# Altium schematic symbol library fszhang.SchLib: 199 symbols (part 1 of 2)
Pins are listed as number, name and electrical type; pins without a type are passive.

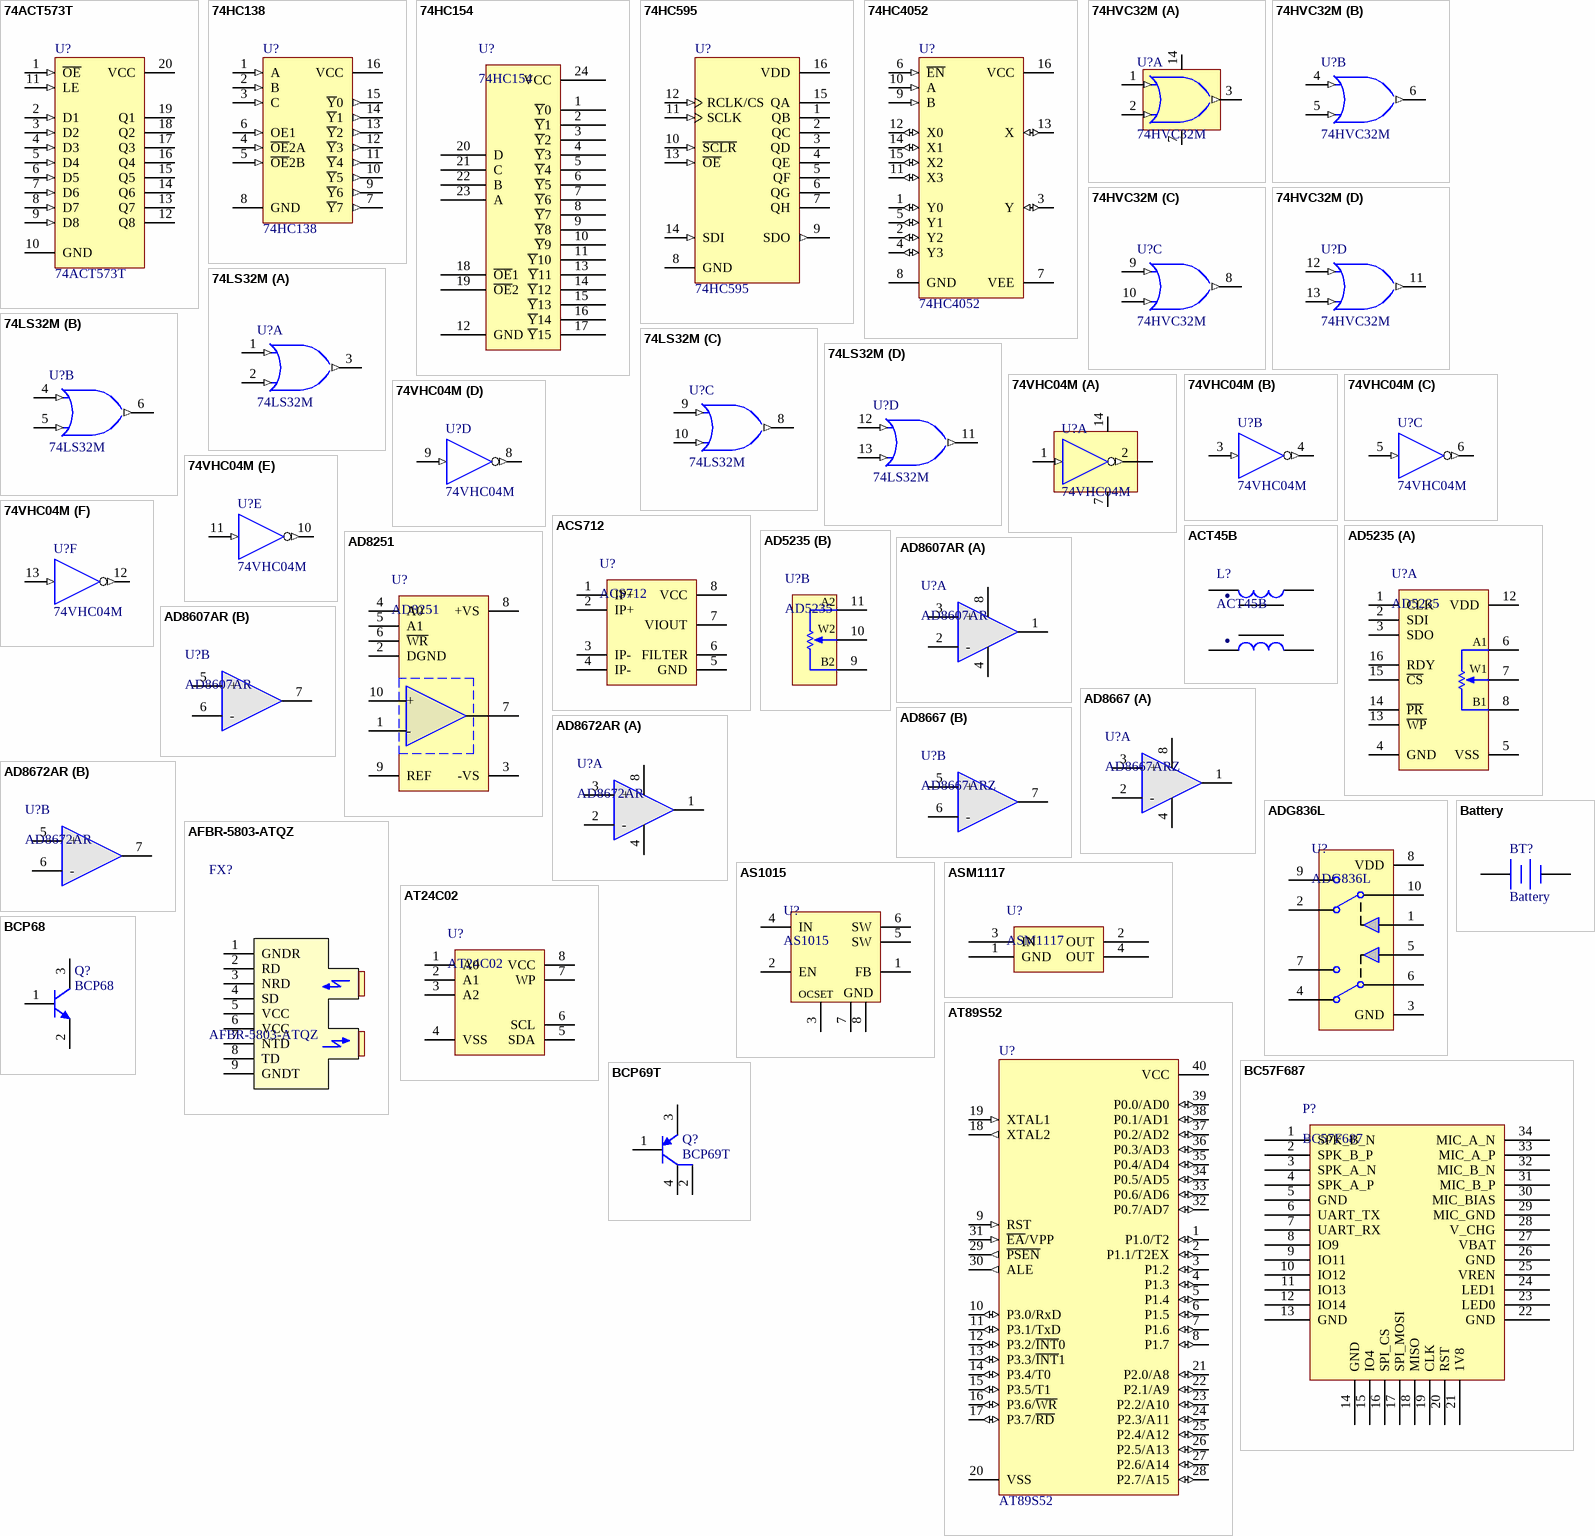
[diagram p0: symbols 74ACT573T to BCP69T]

## 74ACT573T
designator U?
双向数据传输; Published: 8-Jun-2000; LatestRevisionDate: 06-Jun-2005; LatestRevisionNote: Stylized 3D Model Added.; DatasheetVersion: May-1999; PackageReference: TSSOP20; Publisher: Altium Limited; PackageDescription: Shrink Small Outline; 20 Leads; Body Width 4.4 mm; Pitch 0.65 mm; ComponentLink1Description: Manufacturer Link; ComponentLink1URL: http://www.st.com/; ComponentLink2Description: Datasheet; ComponentLink2URL: http://www.st.com/stonline/products/literature/ds/4820/74act573.pdf
footprint TSSOP20 (Shrink Small Outline; 20 Leads; Body Width 4.4 mm; Pitch 0.65 mm)
footprint SO20_M (SOIC, 20-Leads, Body 12.8x7.5mm, Pitch 1.27mm, IPC Low Density)
pins: 1 ~{OE} (in), 2 D1 (in), 3 D2 (in), 4 D3 (in), 5 D4 (in), 6 D5 (in), 7 D6 (in), 8 D7 (in), 9 D8 (in), 10 GND (power), 11 LE (in), 12 Q8 (hiz), 13 Q7 (hiz), 14 Q6 (hiz), 15 Q5 (hiz), 16 Q4 (hiz), 17 Q3 (hiz), 18 Q2 (hiz), 19 Q1 (hiz), 20 VCC (power)

## 74HC138
designator U?
138译码器; Published: 17-Jul-2002; LatestRevisionDate: 13-Apr-2006; LatestRevisionNote: IPC-7351 Footprint Added.; DatasheetVersion: Nov-1999; PackageVersion: 2000; PackageReference: M16D; Publisher: Altium Limited; PackageDescription: 16-Pin Small Outline Package 1.27 mm Pitch; ComponentLink1Description: Manufacturer Link; ComponentLink1URL: http://www.fairchildsemi.com/; ComponentLink2Description: Datasheet; ComponentLink2URL: http://www.fairchildsemi.com/ds/74%2F74AC138.pdf
footprint NSO16_M (SOIC, 16-Leads, Body 9.9x3.9mm, Pitch 1.27mm, IPC Low Density)
footprint DIP16 (8列双排)
pins: 1 A (in), 2 B (in), 3 C (in), 4 ~{OE}2A (in), 5 ~{OE}2B (in), 6 OE1 (in), 7 ~{Y}7 (out), 8 GND (power), 9 ~{Y}6 (out), 10 ~{Y}5 (out), 11 ~{Y}4 (out), 12 ~{Y}3 (out), 13 ~{Y}2 (out), 14 ~{Y}1 (out), 15 ~{Y}0 (out), 16 VCC (power)

## 74HC154
designator U?
4-16译码器
footprint DW024_N (74hc154)
footprint DIP24 (DIP; 24,74ls154)
pins: 1 ~{Y}0 (power), 2 ~{Y}1 (power), 3 ~{Y}2 (power), 4 ~{Y}3 (power), 5 ~{Y}4 (power), 6 ~{Y}5 (power), 7 ~{Y}6 (power), 8 ~{Y}7 (power), 9 ~{Y}8 (power), 10 ~{Y}9 (power), 11 ~{Y}10 (power), 12 GND (power), 13 ~{Y}11 (power), 14 ~{Y}12 (power), 15 ~{Y}13 (power), 16 ~{Y}14 (power), 17 ~{Y}15 (power), 18 ~{OE}1 (power), 19 ~{OE}2 (power), 20 D (power), 21 C (power), 22 B (power), 23 A (power), 24 VCC (power)

## 74HC595
designator U?
移位寄存器; ComponentAvailability: Not for New Design; Published: 15-Apr-2002; LatestRevisionDate: 13-Apr-2006; LatestRevisionNote: IPC-7351 Footprint Added.; DatasheetVersion: 1997; PackageVersion: 1997; PackageReference: 966-01; Publisher: Altium Limited; PackageDescription: 16-Pin Small Outline Package 1.27 mm Pitch; ComponentLink1Description: Manufacturer Link; ComponentLink1URL: http://www.onsemi.com/; ComponentLink2Description: Datasheet; ComponentLink2URL: http://www.onsemi.com/pub/Collateral/MC74VHC595-D.PDF
footprint DIP16 (8列双排)
footprint NSO16_M (SOIC, 16-Leads, Body 9.9x3.9mm, Pitch 1.27mm, IPC Low Density)
pins: 1 QB (hiz), 2 QC (hiz), 3 QD (hiz), 4 QE (hiz), 5 QF (hiz), 6 QG (hiz), 7 QH (hiz), 8 GND (power), 9 SDO (out), 10 ~{SCLR} (in), 11 SCLK (in), 12 RCLK/CS (in), 13 ~{OE} (in), 14 SDI (in), 15 QA (hiz), 16 VDD (power)

## 74HC4052
designator U?
双通道模拟开关; Published: 8-Jun-2000; LatestRevisionDate: 13-Apr-2006; LatestRevisionNote: IPC-7351 Footprint Added.; DatasheetVersion: Oct-1993; PackageVersion: May-1998; PackageReference: SO16; Publisher: Altium Limited; PackageDescription: 16-Pin Small Outline Integrated Circuit 1.27 mm Pitch; Code_IPC: SOIC127P600-16; ComponentLink1Description: Manufacturer Link; ComponentLink1URL: http://www.st.com/; ComponentLink2Description: Datasheet; ComponentLink2URL: http://www.st.com/stonline/products/literature/ds/7730/m74hc4052.pdf
footprint NSO16_M (SOIC, 16-Leads, Body 9.9x3.9mm, Pitch 1.27mm, IPC Low Density)
footprint DIP16
pins: 1 Y0 (io), 2 Y2 (io), 3 Y (io), 4 Y3 (io), 5 Y1 (io), 6 ~{EN} (in), 7 VEE (power), 8 GND (power), 9 B (in), 10 A (in), 11 X3 (io), 12 X0 (io), 13 X (io), 14 X1 (io), 15 X2 (io), 16 VCC (power)

## 74HVC32M
designator U?
双输入或门; Published: 15-Apr-2002; LatestRevisionDate: 13-Apr-2006; LatestRevisionNote: IPC-7351 Footprint Added.; DatasheetVersion: May-1989; PackageVersion: 2000; PackageReference: M14A; Publisher: Altium Limited; PackageDescription: 14-Pin Small Outline Integrated Circuit 1.27 mm Pitch; Code_IPC: SOIC127P600-14; ComponentLink1Description: Manufacturer Link; ComponentLink1URL: http://www.national.com/; ComponentLink2Description: Datasheet; ComponentLink2URL: http://www.national.com/ds.cgi/54/54LS32.pdf; ComponentLink3Description: URL Link1; ComponentLink3URL: http://www.national.com/pf/DM/DM54LS32.html
footprint SOP-14N (SOP, 14-Leads,)
part A pins: 1 A (in), 2 B (in), 3 Y (out), 7 GND (power), 14 VCC (power)
part B pins: 4 A (in), 5 B (in), 6 Y (out)
part C pins: 8 Y (out), 9 A (in), 10 B (in)
part D pins: 11 Y (out), 12 A (in), 13 B (in)

## 74LS32M
designator U?
双输入或门; Published: 15-Apr-2002; LatestRevisionDate: 13-Apr-2006; LatestRevisionNote: IPC-7351 Footprint Added.; DatasheetVersion: May-1989; PackageVersion: 2000; PackageReference: M14A; Publisher: Altium Limited; PackageDescription: 14-Pin Small Outline Integrated Circuit 1.27 mm Pitch; Code_IPC: SOIC127P600-14; ComponentLink1Description: Manufacturer Link; ComponentLink1URL: http://www.national.com/; ComponentLink2Description: Datasheet; ComponentLink2URL: http://www.national.com/ds.cgi/54/54LS32.pdf; ComponentLink3Description: URL Link1; ComponentLink3URL: http://www.national.com/pf/DM/DM54LS32.html
footprint SOP-14N (SOP, 14-Leads,)
pins on every part: 7 GND (power) hidden to GND, 14 VCC (power) hidden to VCC
part A pins: 1 A (in), 2 B (in), 3 Y (out)
part B pins: 4 A (in), 5 B (in), 6 Y (out)
part C pins: 8 Y (out), 9 A (in), 10 B (in)
part D pins: 11 Y (out), 12 A (in), 13 B (in)

## 74VHC04M
designator U?
非门; IC_Technology: S; Published: 17-Jul-2002; LatestRevisionDate: 13-Apr-2006; LatestRevisionNote: IPC-7351 Footprint Added.; DatasheetVersion: Mar-1998; PackageVersion: 2000; PackageReference: M14A; Publisher: Altium Limited; PackageDescription: 14-Pin Small Outline Integrated Circuit 1.27 mm Pitch; Code_IPC: SOIC127P600-14; ComponentLink1Description: Manufacturer Link; ComponentLink1URL: http://www.fairchildsemi.com/
footprint SOP-14N (SOP, 14-Leads,)
part A pins: 1 A (in), 2 Y (out), 7 GND (power), 14 VCC (power)
part B pins: 3 A (in), 4 Y (out)
part C pins: 5 A (in), 6 Y (out)
part D pins: 8 Y (out), 9 A (in)
part E pins: 10 Y (out), 11 A (in)
part F pins: 12 Y (out), 13 A (in)

## ACS712
designator U?
电流检测芯片
footprint SOIC127P610X175-8N (ACS712)
pins: 1 IP+, 2 IP+, 3 IP-, 4 IP-, 5 GND, 6 FILTER, 7 VIOUT, 8 VCC

## ACT45B
designator L?
共模电感
footprint L-TDK
pins: 1, 2, 3, 4
text: .

## AD5235
designator U?
数控电阻
footprint TSSOP16_M (TSOP, 16-Leads, Body 5x4.4mm, Pitch 0.65mm, IPC Low Density)
part A pins: 1 CLK, 2 SDI, 3 SDO, 4 GND, 5 VSS, 6 A1, 7 W1, 8 B1, 12 VDD, 13 ~{WP}, 14 ~{PR}, 15 ~{CS}, 16 RDY
part B pins: 9 B2, 10 W2, 11 A2

## AD8251
designator U?
可控增益运放
footprint MSOP-UN10_N (TSSOP)
pins: 1 -, 2 DGND, 3 -VS, 4 A0, 5 A1, 6 ~{WR}, 7 OUT, 8 +VS, 9 REF, 10 +

## AD8607AR
designator U?
双运放
footprint NSO8_N (SOIC-max660)
part A pins: 1 OUT1, 2 -, 3 +, 4 V- (power), 8 V+ (power)
part B pins: 5 +, 6 -, 7 OUT2

## AD8667
designator U?, comment AD8667ARZ
双运放
footprint NSO8_N (SOIC-max660)
part A pins: 1 OUT1, 2 -, 3 +, 4 V- (power), 8 V+ (power)
part B pins: 5 +, 6 -, 7 OUT2

## AD8672AR
designator U?
双运放
footprint NSO8_N (SOIC-max660)
part A pins: 1 OUT1, 2 -, 3 +, 4 V- (power), 8 V+ (power)
part B pins: 5 +, 6 -, 7 OUT2

## ADG836L
designator U?
双刀双掷数字开关
footprint MSOP-UN10_N (TSSOP)
pins: 1 IN1, 2 SA, 3 GND, 4 S2A, 5 IN2, 6 D2, 7 S2B, 8 VDD, 9 S1B, 10 D1

## AFBR-5803-ATQZ
designator FX?
光以太网
footprint AFBR-5803AQZ (光以太网)
pins: 1 GNDR, 2 RD, 3 NRD, 4 SD, 5 VCC, 6 VCC, 7 NTD, 8 TD, 9 GNDT

## AS1015
designator U?
可调升压芯片
footprint NSO8_N (SOIC-max660)
pins: 1 FB (power), 2 EN (power), 3 OCSET (power), 4 IN (power), 5 SW (power), 6 SW (power), 7 GND (power), 8 GND (power)

## ASM1117
designator U?
3.3V稳压芯片
footprint SOT-223 (ASM1117 -3.3V)
pins: 1 GND, 2 OUT, 3 IN, 4 OUT

## AT24C02
designator U?
EEROM存储器
footprint SOIC8_N (8-Pin Small Outline Integrated Circuit Package (SOIC8), IPC Medium Density)
pins: 1 A0, 2 A1, 3 A2, 4 VSS, 5 SDA, 6 SCL, 7 WP, 8 VCC

## AT89S52
designator U?
51系列单片机; Published: 21-May-2003; DatasheetVersion: 5-Jun-2002; PackageVersion: Aug-2000; PackageReference: SOT129-1; Publisher: Altium Limited; PackageDescription: DIP, Plastic; 40 Leads; Row Spacing 15.24 mm; Pitch 2.54 mm; Code_JEDEC: MO-015; ComponentLink1Description: Manufacturer Link; ComponentLink1URL: http://www-us2.semiconductors.philips.com/; ComponentLink2Description: Datasheet; ComponentLink2URL: http://www.semiconductors.philips.com/acrobat/datasheets/P89C5XX2_2.pdf
footprint DIP-40 (51单片机)
pins: 1 P1.0/T2 (io), 2 P1.1/T2EX (io), 3 P1.2 (io), 4 P1.3 (io), 5 P1.4 (io), 6 P1.5 (io), 7 P1.6 (io), 8 P1.7 (io), 9 RST (in), 10 P3.0/RxD (io), 11 P3.1/TxD (io), 12 P3.2/~{INT}0 (io), 13 P3.3/~{INT}1 (io), 14 P3.4/T0 (io), 15 P3.5/T1 (io), 16 P3.6/~{WR} (io), 17 P3.7/~{RD} (io), 18 XTAL2 (out), 19 XTAL1 (in), 20 VSS (power), 21 P2.0/A8 (io), 22 P2.1/A9 (io), 23 P2.2/A10 (io), 24 P2.3/A11 (io), 25 P2.4/A12 (io), 26 P2.5/A13 (io), 27 P2.6/A14 (io), 28 P2.7/A15 (io), 29 ~{PSEN} (out), 30 ALE (out), 31 ~{EA}/VPP (in), 32 P0.7/AD7 (io), 33 P0.6/AD6 (io), 34 P0.5/AD5 (io), 35 P0.4/AD4 (io), 36 P0.3/AD3 (io), 37 P0.2/AD2 (io), 38 P0.1/AD1 (io), 39 P0.0/AD0 (io), 40 VCC (power)

## Battery
designator BT?
备份电池; Published: 24-Mar-1999; LatestRevisionDate: 17-Jul-2002; LatestRevisionNote: Re-released for DXP Platform.; PackageReference: BAT-2; Publisher: Altium Limited
footprint CR1220 (钮扣电池)
pins: 1 +, 2 -

## BC57F687
designator P?
蓝牙音频模块
footprint HDR34_BT (蓝牙模块)
pins: 1 SPK_B_N, 2 SPK_B_P, 3 SPK_A_N, 4 SPK_A_P, 5 GND, 6 UART_TX, 7 UART_RX, 8 IO9, 9 IO11, 10 IO12, 11 IO13, 12 IO14, 13 GND, 14 GND, 15 IO4, 16 SPI_CS, 17 SPI_MOSI, 18 MISO, 19 CLK, 20 RST, 21 1V8, 22 GND, 23 LED0, 24 LED1, 25 VREN, 26 GND, 27 VBAT, 28 V_CHG, 29 MIC_GND, 30 MIC_BIAS, 31 MIC_B_P, 32 MIC_B_N, 33 MIC_A_P, 34 MIC_A_N

## BCP68
designator Q?
NPN三极管; Published: 17-Sep-2003; LatestRevisionDate: 12-Dec-2006; LatestRevisionNote: IPC-7351 Footprint Added.; DatasheetVersion: 8-Apr-1999; PackageVersion: Aug-2001; PackageReference: SOT223; Publisher: Altium Limited; PackageDescription: 4-Pin SOT-223 Package 2.3 mm Pitch, 7 mm Lead Span; ComponentLink1Description: Manufacturer Link; ComponentLink1URL: http://www.semiconductors.philips.com/; ComponentLink2Description: Datasheet; ComponentLink2URL: http://www.semiconductors.philips.com/acrobat/datasheets/BCP68_4.pdf
footprint SOT-23 (普通?)
pins: 1 B, 2 E, 3 C

## BCP69T
designator Q?
PNP三极管; Published: 8-Jun-2000; LatestRevisionDate: 15-Jan-2003; LatestRevisionNote: PCB Footprint 'BCY-W3/D4.7' replaced; DatasheetDocument: 1997; PackageDocument: Sep-1998; PackageReference: TO-92A; Publisher: Altium Limited; Code_JEDEC: TO-92A; ComponentLink1Description: Manufacturer Link; ComponentLink1URL: http://www.fairchildsemi.com/; ComponentLink2Description: Datasheet; ComponentLink2URL: http://www.fairchildsemi.com/ds/2N%2F2N3906.pdf
footprint SOT-223 (ASM1117 -3.3V)
pins: 1 B, 2 C, 3 E, 4

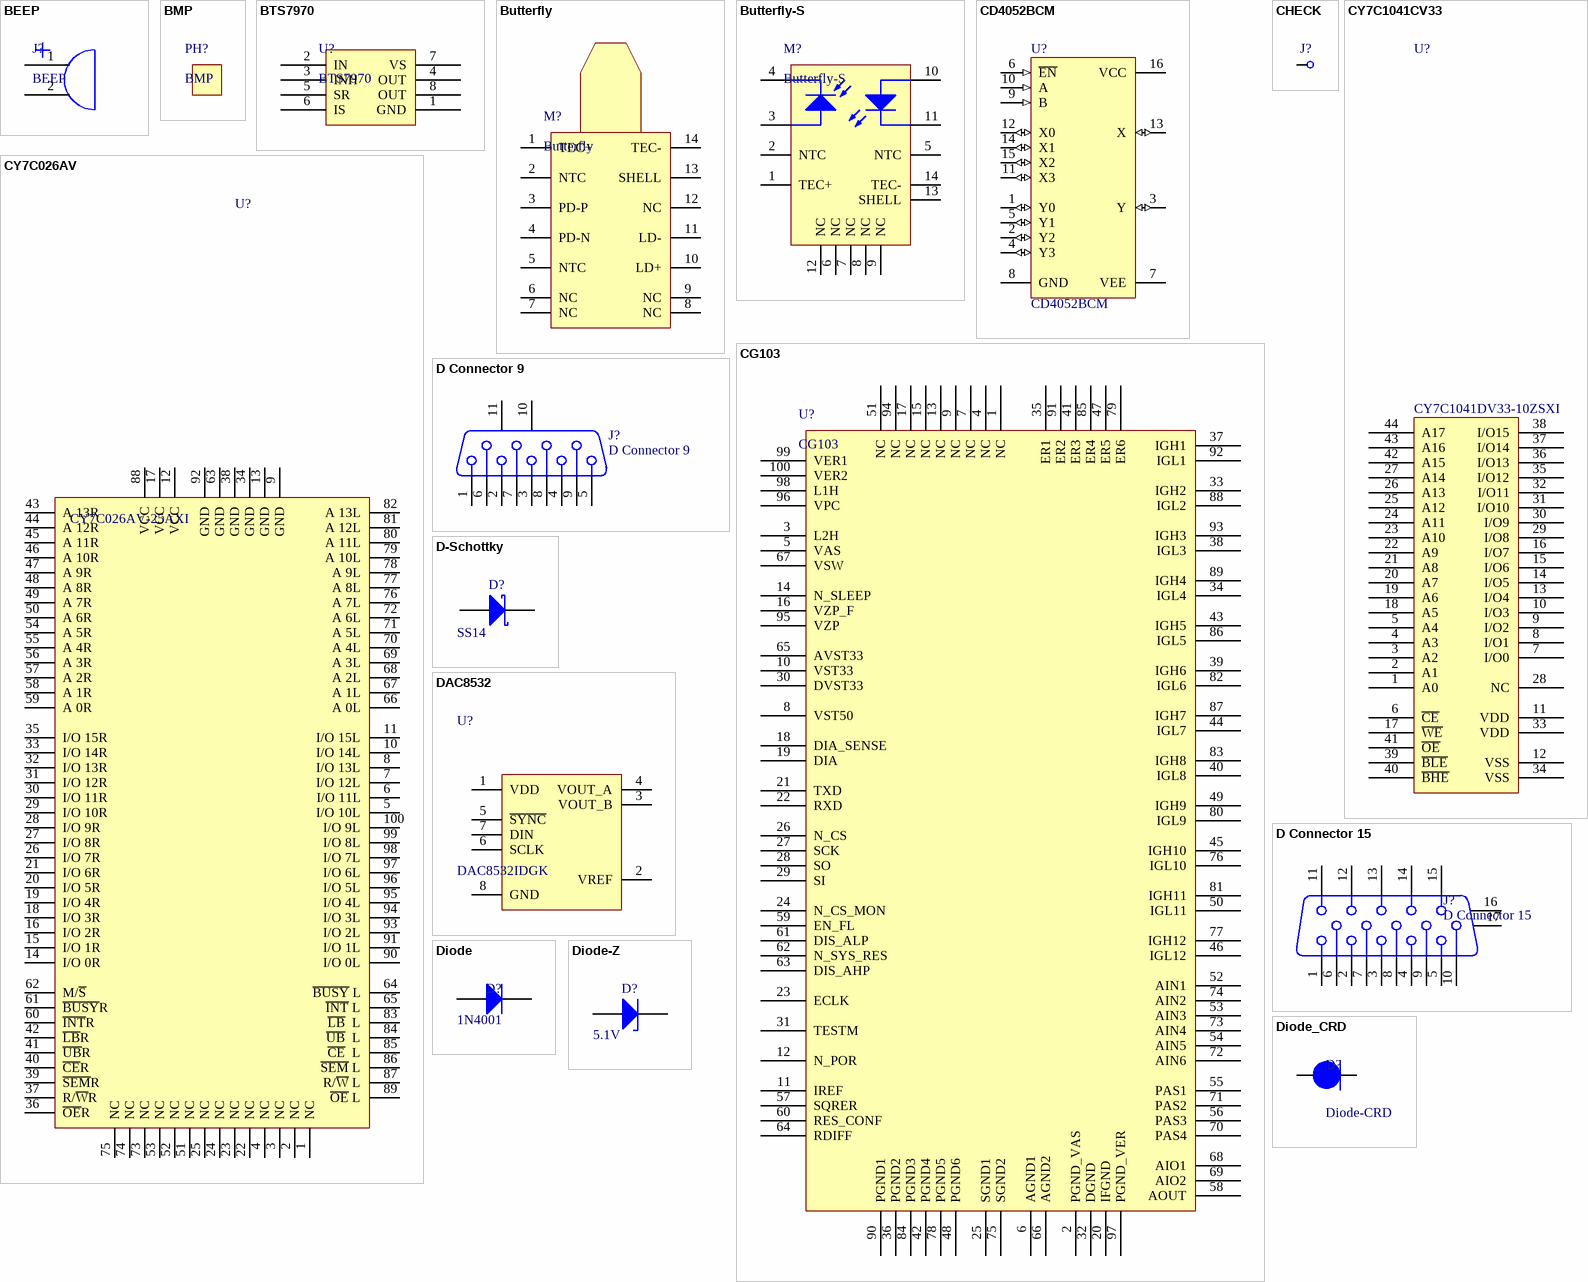
[diagram p1: symbols BEEP to Diode_CRD]

## BEEP
designator J?
蜂鸣器
footprint Beep (蜂鸣器)
pins: 1 0, 2 1

## BMP
designator PH?
闪电符号
footprint LOGO_Thunder
footprint LOGO-3S

## BTS7970
designator U?
电机驱动
footprint TO-263-7 (TO, 8-Pads,7970)
pins: 1 GND (power), 2 IN (power), 3 INH (power), 4 OUT (power), 5 SR (power), 6 IS (power), 7 VS (power), 8 OUT (power)

## Butterfly
designator M?
功率激光器
pins: 1 TEC+, 2 NTC, 3 PD-P, 4 PD-N, 5 NTC, 6 NC, 7 NC, 8 NC, 9 NC, 10 LD+, 11 LD-, 12 NC, 13 SHELL, 14 TEC-

## Butterfly-S
designator M?
功率激光器
pins: 1 TEC+, 2 NTC, 3 PD-P, 4 PD-N, 5 NTC, 6 NC, 7 NC, 8 NC, 9 NC, 10 LD+, 11 LD-, 12 NC, 13 SHELL, 14 TEC-

## CD4052BCM
designator U?
双通道模拟开关; Published: 17-Jul-2002; LatestRevisionDate: 13-Apr-2006; LatestRevisionNote: IPC-7351 Footprint Added.; DatasheetVersion: Jan-1999; PackageVersion: 2000; PackageReference: M16A; Publisher: Altium Limited; PackageDescription: 16-Pin Small Outline Integrated Circuit 1.27 mm Pitch; Code_IPC: SOIC127P600-16; ComponentLink1Description: Manufacturer Link; ComponentLink1URL: http://www.fairchildsemi.com/; ComponentLink2Description: Datasheet; ComponentLink2URL: http://www.fairchildsemi.com/ds/CD%2FCD4052BC.pdf
footprint NSO16_M (SOIC, 16-Leads, Body 9.9x3.9mm, Pitch 1.27mm, IPC Low Density)
pins: 1 Y0 (io), 2 Y2 (io), 3 Y (io), 4 Y3 (io), 5 Y1 (io), 6 ~{EN} (in), 7 VEE (power), 8 GND (power), 9 B (in), 10 A (in), 11 X3 (io), 12 X0 (io), 13 X (io), 14 X1 (io), 15 X2 (io), 16 VCC (power)

## CG103
designator U?
BOSCH点火芯片
footprint LQFP-100_M (Thin QFP, 100)
pins: 1 NC, 2 PGND_VAS, 3 L2H, 4 NC, 5 VAS, 6 AGND1, 7 NC, 8 VST50, 9 NC, 10 VST33, 11 IREF, 12 N_POR, 13 NC, 14 N_SLEEP, 15 NC, 16 VZP_F, 17 NC, 18 DIA_SENSE, 19 DIA, 20 IFGND, 21 TXD, 22 RXD, 23 ECLK, 24 N_CS_MON, 25 SGND1, 26 N_CS, 27 SCK, 28 SO, 29 SI, 30 DVST33, 31 TESTM, 32 DGND, 33 IGH2, 34 IGL4, 35 ER1, 36 PGND2, 37 IGH1, 38 IGL3, 39 IGH6, 40 IGL8, 41 ER3, 42 PGND4, 43 IGH5, 44 IGL7, 45 IGH10, 46 IGL12, 47 ER5, 48 PGND6, 49 IGH9, 50 IGL11, 51 NC, 52 AIN1, 53 AIN3, 54 AIN5, 55 PAS1, 56 PAS3, 57 SQRER, 58 AOUT, 59 EN_FL, 60 RES_CONF, 61 DIS_ALP, 62 N_SYS_RES, 63 DIS_AHP, 64 RDIFF, 65 AVST33, 66 AGND2, 67 VSW, 68 AIO1, 69 AIO2, 70 PAS4, 71 PAS2, 72 AIN6, 73 AIN4, 74 AIN2, 75 SGND2, 76 IGL10, 77 IGH12, 78 PGND5, 79 ER6, 80 IGL9, 81 IGH11, 82 IGL6, 83 IGH8, 84 PGND3, 85 ER4, 86 IGL5, 87 IGH7, 88 IGL2, 89 IGH4, 90 PGND1, 91 ER2, 92 IGL1, 93 IGH3, 94 NC, 95 VZP, 96 VPC, 97 PGND_VER, 98 L1H, 99 VER1, 100 VER2

## CHECK
designator J?  (value not drawn)
测试点
footprint CHECK-A (Connector; Plug)
footprint CHECK-B (Connector; Plug)
pins: 1

## CY7C026AV
designator U?, comment CY7C026AV-25AXI
RAM
footprint TQFP100_M (Thin QFP, 100-Leads, Body 14x14mm, Pitch 0.5mm, IPC Low Density)
pins: 1 NC, 2 NC, 3 NC, 4 NC, 5 I/O 10L, 6 I/O 11L, 7 I/O 12L, 8 I/O 13L, 9 GND, 10 I/O 14L, 11 I/O 15L, 12 VCC, 13 GND, 14 I/O 0R, 15 I/O 1R, 16 I/O 2R, 17 VCC, 18 I/O 3R, 19 I/O 4R, 20 I/O 5R, 21 I/O 6R, 22 NC, 23 NC, 24 NC, 25 NC, 26 I/O 7R, 27 I/O 8R, 28 I/O 9R, 29 I/O 10R, 30 I/O 11R, 31 I/O 12R, 32 I/O 13R, 33 I/O 14R, 34 GND, 35 I/O 15R, 36 ~{OE}R, 37 R/~{W}R, 38 GND, 39 ~{SEM}R, 40 ~{CE}R, 41 ~{UB}R, 42 ~{LB}R, 43 A 13R, 44 A 12R, 45 A 11R, 46 A 10R, 47 A 9R, 48 A 8R, 49 A 7R, 50 A 6R, 51 NC, 52 NC, 53 NC, 54 A 5R, 55 A 4R, 56 A 3R, 57 A 2R, 58 A 1R, 59 A 0R, 60 ~{INT}R, 61 ~{BUSY}R, 62 M/~{S}, 63 GND, 64 ~{BUSY} L, 65 ~{INT} L, 66 A 0L, 67 A 1L, 68 A 2L, 69 A 3L, 70 A 4L, 71 A 5L, 72 A 6L, 73 NC, 74 NC, 75 NC, 76 A 7L, 77 A 8L, 78 A 9L, 79 A 10L, 80 A 11L, 81 A 12L, 82 A 13L, 83 ~{LB}  L, 84 ~{UB}  L, 85 ~{CE}  L, 86 ~{SEM} L, 87 R/~{W} L, 88 VCC, 89 ~{OE} L, 90 I/O 0L, 91 I/O 1L, 92 GND, 93 I/O 2L, 94 I/O 3L, 95 I/O 4L, 96 I/O 5L, 97 I/O 6L, 98 I/O 7L, 99 I/O 8L, 100 I/O 9L

## CY7C1041CV33
designator U?, comment CY7C1041DV33-10ZSXI
RAM
footprint TSOP-44N (TSOP, 44-Leads, Body 18.2x10.0mm (max), Pitch 0.80mm, IPC Medium Density)
pins: 1 A0, 2 A1, 3 A2, 4 A3, 5 A4, 6 ~{CE}, 7 I/O0, 8 I/O1, 9 I/O2, 10 I/O3, 11 VDD, 12 VSS, 13 I/O4, 14 I/O5, 15 I/O6, 16 I/O7, 17 ~{WE}, 18 A5, 19 A6, 20 A7, 21 A8, 22 A9, 23 A10, 24 A11, 25 A12, 26 A13, 27 A14, 28 NC, 29 I/O8, 30 I/O9, 31 I/O10, 32 I/O11, 33 VDD, 34 VSS, 35 I/O12, 36 I/O13, 37 I/O14, 38 I/O15, 39 ~{BLE}, 40 ~{BHE}, 41 ~{OE}, 42 A15, 43 A16, 44 A17

## D Connector 9
designator J?
串口; PackageDocument: O; Positions: 9; Gender: Receptacle; Published: 15-Jun-2001; LatestRevisionDate: 17-Jul-2002; LatestRevisionNote: Re-released for DXP Platform.; DatasheetDocument: 1-Sep-1999; PackageReference: 788750; Publisher: Altium Limited; Orientation: Right Angle
footprint DB9-M (DB9公座)
footprint DB9-F (DB9母座)
pins: 1, 2, 3, 4, 5, 6, 7, 8, 9, 10 MH1, 11 MH2

## D Connector 15
designator J?
VGA; PackageDocument: O; Positions: 9; Gender: Receptacle; Published: 15-Jun-2001; LatestRevisionDate: 17-Jul-2002; LatestRevisionNote: Re-released for DXP Platform.; DatasheetDocument: 1-Sep-1999; PackageReference: 788750; Publisher: Altium Limited; Orientation: Right Angle
footprint DB15-M (VGA公)
footprint DB15-F (VGA母)
pins: 1, 2, 3, 4, 5, 6, 7, 8, 9, 10, 11, 12, 13, 14, 15, 16 MH2, 17 MH1

## D-Schottky
designator D?  Type: SS14  (hidden comment: D-Schottky)
肖特基二极管; Published: 8-Jun-2000; LatestRevisionDate: 17-Jul-2002; LatestRevisionNote: Re-released for DXP Platform.; PackageReference: SMB; Publisher: Altium Limited; Code_JEDEC: DO-214-AA
footprint DIODE-SMA (贴片二极管)
footprint DIODE-SMC (SS34贴片肖特基二极管)
footprint DIODE-SMB (DO-214-AA/SMB; 2 C-Bend Leads; Body 5.3 x 3.6 mm, inc. leads (LxW))
pins: 1 A, 2 K

## DAC8532
designator U?, comment DAC8532IDGK
数模转换; Type: DAC8532IDGK
footprint TSSOP-8
pins: 1 VDD (power), 2 VREF, 3 VOUT_B, 4 VOUT_A, 5 ~{SYNC}, 6 SCLK, 7 DIN, 8 GND

## Diode
designator D?  Type: 1N4001  (hidden comment: Diode)
二极管; Published: 8-Jun-2000; LatestRevisionDate: 17-Jul-2002; LatestRevisionNote: Re-released for DXP Platform.; PackageDocument: Sep-1996; PackageReference: SMC; Publisher: Altium Limited; Code_JEDEC: DO-214-AB
footprint DIODE-AXL (直插二极管)
footprint DIODE-1206 (玻璃封装二极管)
footprint DIODE-SMA (贴片二)
pins: 1 A, 2 K

## Diode-Z
designator D?  value 5.1V  (hidden comment: Diode-Z)
稳压二极管; Published: 8-Jun-2000; LatestRevisionDate: 17-Jul-2002; LatestRevisionNote: Re-released for DXP Platform.; PackageReference: SMB; Publisher: Altium Limited; Code_JEDEC: DO-214-AA
footprint DIODE-AXL (直插二极管)
footprint DIODE-1206 (玻璃封装二极管)
pins: 1 A, 2 K

## Diode_CRD
designator D?, comment Diode-CRD
恒流二极管; Published: 8-Jun-2000; LatestRevisionDate: 17-Jul-2002; LatestRevisionNote: Re-released for DXP Platform.; PackageDocument: Sep-1996; PackageReference: SMC; Publisher: Altium Limited; Code_JEDEC: DO-214-AB
footprint DIODE-AXL (直插二极管)
footprint DIODE-1206 (玻璃封装二极管)
footprint DIODE-SMA (贴片二)
pins: 1 A, 2 K

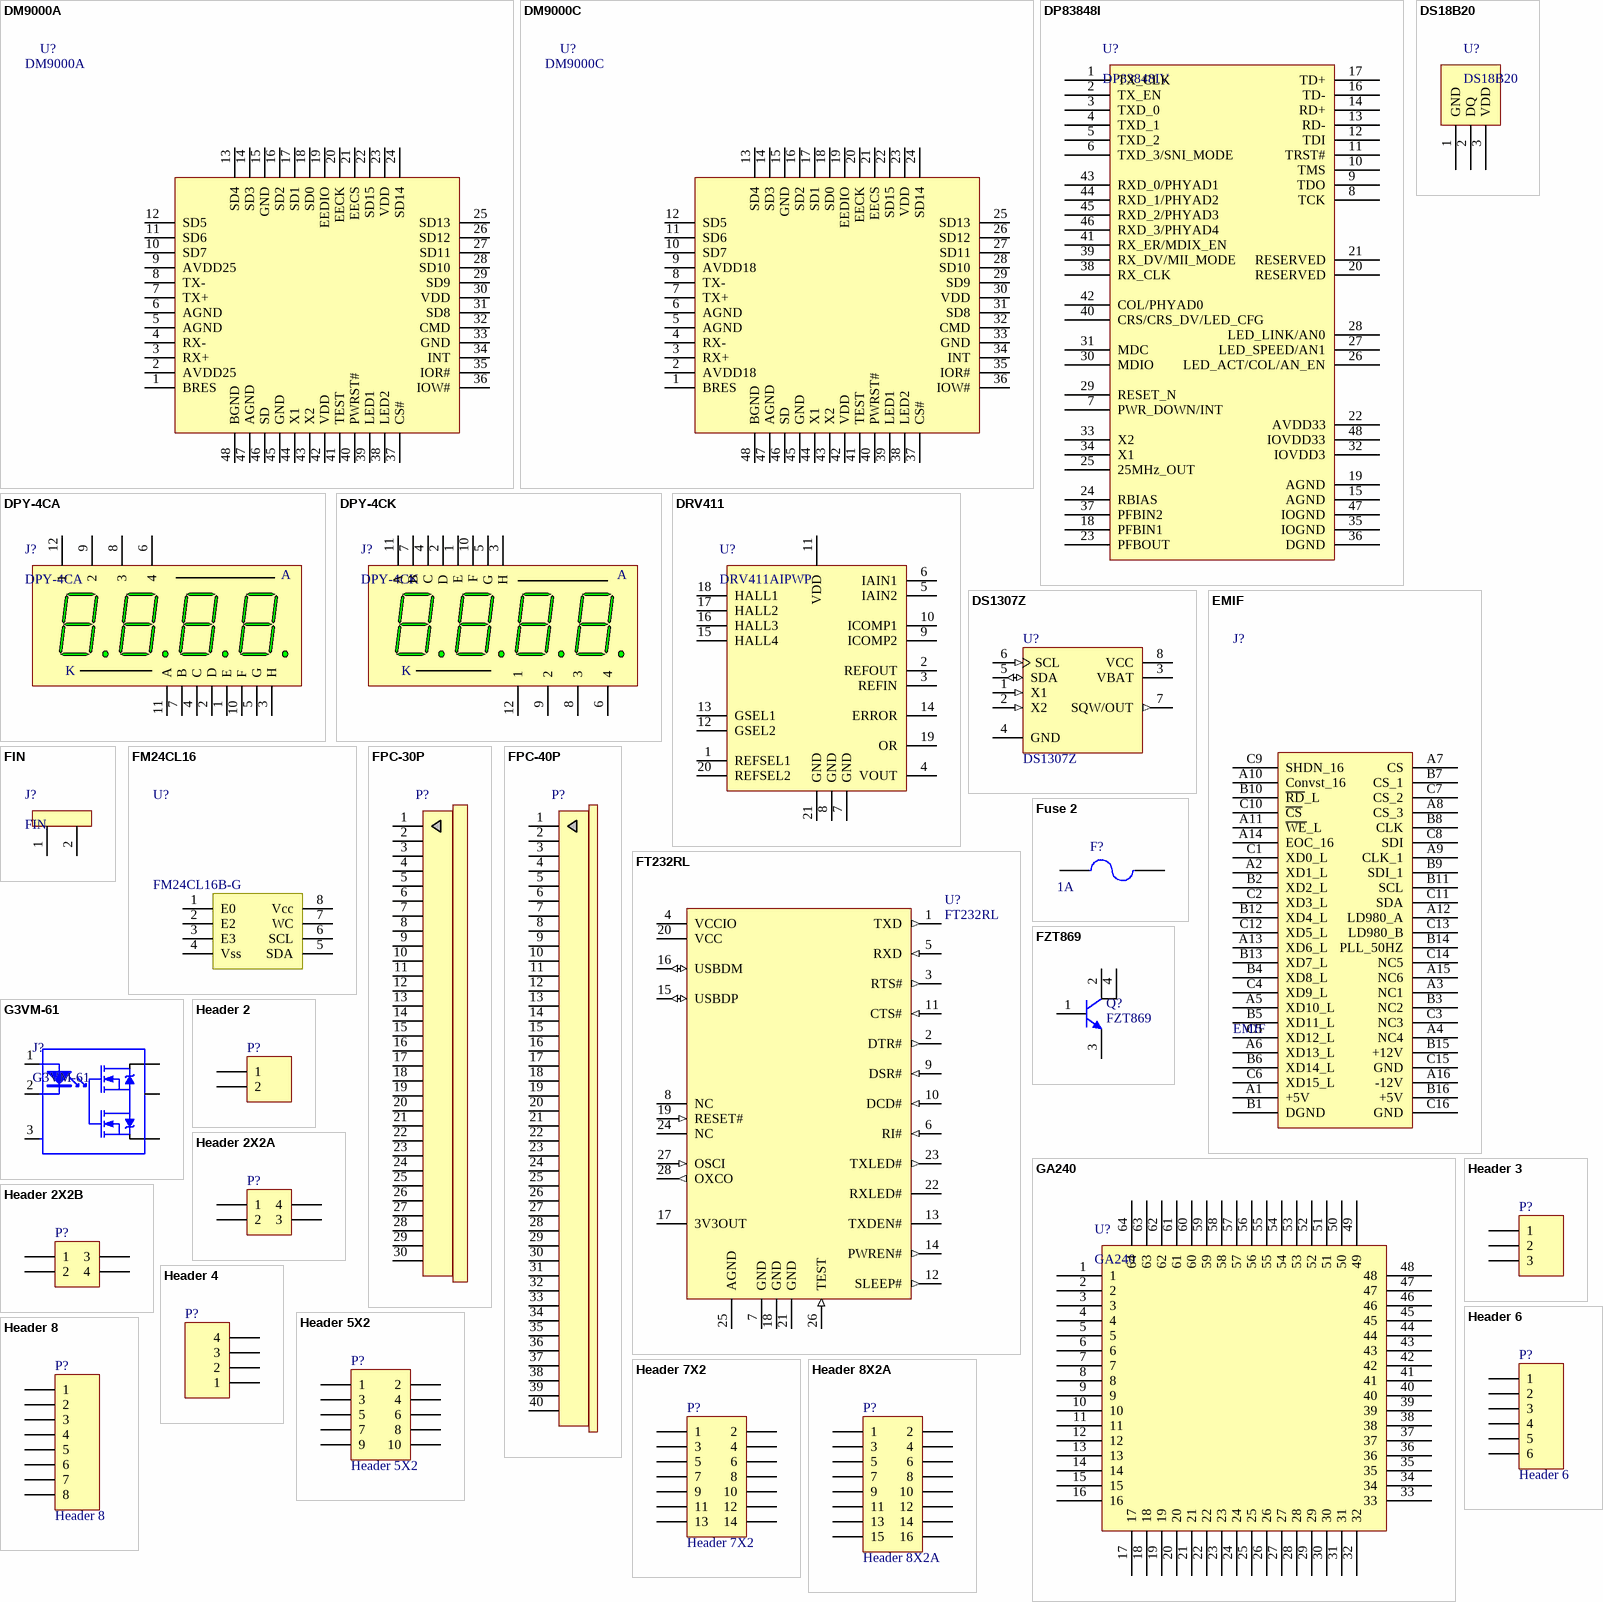
[diagram p2: symbols DM9000A to Header 8X2A]

## DM9000A
designator U?
网络芯片
footprint LQFP-48_M (Thin QFP, 48-Leads, Body 7x7mm, Pitch 0.5mm, IPC Low Density)
pins: 1 BRES, 2 AVDD25, 3 RX+, 4 RX-, 5 AGND, 6 AGND, 7 TX+, 8 TX-, 9 AVDD25, 10 SD7, 11 SD6, 12 SD5, 13 SD4, 14 SD3, 15 GND, 16 SD2, 17 SD1, 18 SD0, 19 EEDIO, 20 EECK, 21 EECS, 22 SD15, 23 VDD, 24 SD14, 25 SD13, 26 SD12, 27 SD11, 28 SD10, 29 SD9, 30 VDD, 31 SD8, 32 CMD, 33 GND, 34 INT, 35 IOR#, 36 IOW#, 37 CS#, 38 LED2, 39 LED1, 40 PWRST#, 41 TEST, 42 VDD, 43 X2, 44 X1, 45 GND, 46 SD, 47 AGND, 48 BGND

## DM9000C
designator U?
网络芯片
footprint LQFP-48_M (Thin QFP, 48-Leads, Body 7x7mm, Pitch 0.5mm, IPC Low Density)
pins: 1 BRES, 2 AVDD18, 3 RX+, 4 RX-, 5 AGND, 6 AGND, 7 TX+, 8 TX-, 9 AVDD18, 10 SD7, 11 SD6, 12 SD5, 13 SD4, 14 SD3, 15 GND, 16 SD2, 17 SD1, 18 SD0, 19 EEDIO, 20 EECK, 21 EECS, 22 SD15, 23 VDD, 24 SD14, 25 SD13, 26 SD12, 27 SD11, 28 SD10, 29 SD9, 30 VDD, 31 SD8, 32 CMD, 33 GND, 34 INT, 35 IOR#, 36 IOW#, 37 CS#, 38 LED2, 39 LED1, 40 PWRST#, 41 TEST, 42 VDD, 43 X2, 44 X1, 45 GND, 46 SD, 47 AGND, 48 BGND

## DP83848I
designator U?, comment DP83848IV
网络芯片
footprint TQFP48_N (Thin QFP, 48-Leads, Body 7x7mm, Pitch 0.5mm, IPC Medium Density)
pins: 1 TX_CLK, 2 TX_EN, 3 TXD_0, 4 TXD_1, 5 TXD_2, 6 TXD_3/SNI_MODE, 7 PWR_DOWN/INT, 8 TCK, 9 TDO, 10 TMS, 11 TRST#, 12 TDI, 13 RD-, 14 RD+, 15 AGND, 16 TD-, 17 TD+, 18 PFBIN1, 19 AGND, 20 RESERVED, 21 RESERVED, 22 AVDD33, 23 PFBOUT, 24 RBIAS, 25 25MHz_OUT, 26 LED_ACT/COL/AN_EN, 27 LED_SPEED/AN1, 28 LED_LINK/AN0, 29 RESET_N, 30 MDIO, 31 MDC, 32 IOVDD3, 33 X2, 34 X1, 35 IOGND, 36 DGND, 37 PFBIN2, 38 RX_CLK, 39 RX_DV/MII_MODE, 40 CRS/CRS_DV/LED_CFG, 41 RX_ER/MDIX_EN, 42 COL/PHYAD0, 43 RXD_0/PHYAD1, 44 RXD_1/PHYAD2, 45 RXD_2/PHYAD3, 46 RXD_3/PHYAD4, 47 IOGND, 48 IOVDD33

## DPY-4CA
designator J?
共阳4位数码管
footprint DYP-4BIT (数码管)
pins: 1 E "Anode", 2 D "Anode", 3 H "Anode", 4 C "Anode", 5 G "Anode", 6 4 "Cathode", 7 B "Anode", 8 3 "Anode", 9 2 "Anode", 10 F "Anode", 11 A "Anode", 12 1 "Cathode"
text: K

## DPY-4CK
designator J?
共阴4位数码管
footprint DYP-4BIT (数码管)
pins: 1 E "Anode", 2 D "Anode", 3 H "Anode", 4 C "Anode", 5 G "Anode", 6 4 "Cathode", 7 B "Anode", 8 3 "Anode", 9 2 "Anode", 10 F "Anode", 11 A "Anode", 12 1 "Cathode"
text: K

## DRV411
designator U?, comment DRV411AIPWP
闭环磁电流
footprint TSSOP20P_M (TSOP, 20-Leads, Body 6.5x4.4mm, Pitch 0.65mm, IPC Low Density)
pins: 1 REFSEL1, 2 REFOUT, 3 REFIN, 4 VOUT, 5 IAIN2, 6 IAIN1, 7 GND, 8 GND, 9 ICOMP2, 10 ICOMP1, 11 VDD, 12 GSEL2, 13 GSEL1, 14 ERROR, 15 HALL4, 16 HALL3, 17 HALL2, 18 HALL1, 19 OR, 20 REFSEL2, 21 GND

## DS18B20
designator U?
温度传感器
footprint TO-92A (直插三极管)
pins: 1 GND, 2 DQ, 3 VDD

## DS1307Z
designator U?
实时时钟; Published: 13-Oct-2000; LatestRevisionDate: 13-Apr-2006; LatestRevisionNote: IPC-7351 Footprint Added.; DatasheetVersion: 10-Aug-1999; PackageVersion: 1999; PackageReference: SOIC8N; Publisher: Altium Limited; PackageDescription: 8-Pin Small Outline Integrated Circuit 1.27 mm Pitch; Code_IPC: SOIC127P600-8; ComponentLink1Description: Manufacturer Link; ComponentLink1URL: http://www.maxim-ic.com/; ComponentLink2Description: Datasheet; ComponentLink2URL: http://pdfserv.maxim-ic.com/en/ds/DS1307.pdf; ComponentLink3Description: Discontinuation Notice; ComponentLink3URL: http://www.maxim-ic.com/qa/pdfs/non-obsolescence-letter.pdf
footprint SOIC8_N (8-Pin Small Outline Integrated Circuit Package (SOIC8), IPC Medium Density)
pins: 1 X1 (in), 2 X2 (in), 3 VBAT (power), 4 GND (power), 5 SDA (io), 6 SCL (in), 7 SQW/OUT (out), 8 VCC (power)

## EMIF
designator J?
接插件
footprint HDR16X3_HA
footprint HDR16X3_HB
pins: A1 +5V, A2 XD1_L, A3 NC1, A4 NC4, A5 XD10_L, A6 XD13_L, A7 CS, A8 CS_3, A9 CLK_1, A10 Convst_16, A11 ~{WE}_L, A12 LD980_A, A13 XD6_L, A14 EOC_16, A15 NC6, A16 -12V, B1 DGND, B2 XD2_L, B3 NC2, B4 XD8_L, B5 XD11_L, B6 XD14_L, B7 CS_1, B8 CLK, B9 SDI_1, B10 ~{RD}_L, B11 SCL, B12 XD4_L, B13 XD7_L, B14 PLL_50HZ, B15 +12V, B16 +5V, C1 XD0_L, C2 XD3_L, C3 NC3, C4 XD9_L, C5 XD12_L, C6 XD15_L, C7 CS_2, C8 SDI, C9 SHDN_16, C10 ~{CS}, C11 SDA, C12 XD5_L, C13 LD980_B, C14 NC5, C15 GND, C16 GND

## FIN
designator J?
散热片
footprint FIN-P2
pins: 1, 2

## FM24CL16
designator U?, comment FM24CL16B-G
铁电存储器
footprint NSO8_N (SOIC-max660)
pins: 1 E0, 2 E2, 3 E3, 4 Vss, 5 SDA, 6 SCL, 7 WC, 8 Vcc

## FPC-30P
designator P?, comment FPC  (value not drawn)
FPC排线连接器
footprint FPC0.8-30P-A (FPC)
pins: 1, 2, 3, 4, 5, 6, 7, 8, 9, 10, 11, 12, 13, 14, 15, 16, 17, 18, 19, 20, 21, 22, 23, 24, 25, 26, 27, 28, 29, 30

## FPC-40P
designator P?, comment FPC  (value not drawn)
FPC排线连接器
footprint FPC0.5-40P-A
pins: 1, 2, 3, 4, 5, 6, 7, 8, 9, 10, 11, 12, 13, 14, 15, 16, 17, 18, 19, 20, 21, 22, 23, 24, 25, 26, 27, 28, 29, 30, 31, 32, 33, 34, 35, 36, 37, 38, 39, 40

## FT232RL
designator U?
USB转串口; Published: 6-Oct-2005; LatestRevisionDate: 13-Apr-2006; LatestRevisionNote: IPC-7351 Footprint Added.; DatasheetVersion: ver 1.7, Feb-2005; PackageVersion: Mar-2004; PackageReference: LQFP-32; Publisher: Altium Limited; PackageDescription: 32-Pin Thin Quad Flat Pack 0.8 mm Pitch; ComponentLink1Description: Manufacturer Link; ComponentLink1URL: http://www.ftdichip.com/Products/FT232BM.htm; ComponentLink2Description: Datasheet; ComponentLink2URL: http://www.ftdichip.com/Documents/DataSheets/ds232b17.pdf
footprint SSOP-28 (FT232)
pins: 1 TXD (out), 2 DTR# (out), 3 RTS# (out), 4 VCCIO (power), 5 RXD (in), 6 RI# (in), 7 GND (power), 8 NC, 9 DSR# (in), 10 DCD# (in), 11 CTS# (in), 12 SLEEP# (out), 13 TXDEN# (oc), 14 PWREN# (out), 15 USBDP (io), 16 USBDM (io), 17 3V3OUT (power), 18 GND (power), 19 RESET# (in), 20 VCC (power), 21 GND (power), 22 RXLED# (oc), 23 TXLED# (out), 24 NC, 25 AGND (power), 26 TEST (in), 27 OSCI (in), 28 OXCO (out)

## Fuse 2
designator F?, comment value 1A  (hidden comment: Fuse)
保险丝; Published: 8-Jun-2000; LatestRevisionDate: 17-Jul-2002; LatestRevisionNote: Re-released for DXP Platform.; PackageReference: PIN-W2/E2.8; Publisher: Altium Limited
footprint 1812 (3.5A保险丝)
pins: 1, 2

## FZT869
designator Q?
NPN三极管; Published: 8-Jun-2000; LatestRevisionDate: 15-Jan-2003; LatestRevisionNote: PCB Footprint 'BCY-W3/D4.7' replaced; DatasheetDocument: 1997; PackageDocument: Sep-1998; PackageReference: TO-92A; Publisher: Altium Limited; Code_JEDEC: TO-92A; ComponentLink1Description: Manufacturer Link; ComponentLink1URL: http://www.fairchildsemi.com/; ComponentLink2Description: Datasheet; ComponentLink2URL: http://www.fairchildsemi.com/ds/2N%2F2N3904.pdf
footprint SOT-223 (ASM1117 -3.3V)
pins: 1 B, 2 C, 3 E, 4 C

## G3VM-61
designator J?
半导体继电器
footprint SOT254P-6 (继电器)
pins: 1 A "Anode", 2 K "Cathode", 3, 4, 5, 6

## GA240
designator U?
Freescale16位单片机
footprint LQFP-64 (LQFP64)
pins: 1, 2, 3, 4, 5, 6, 7, 8, 9, 10, 11, 12, 13, 14, 15, 16, 17, 18, 19, 20, 21, 22, 23, 24, 25, 26, 27, 28, 29, 30, 31, 32, 33, 34, 35, 36, 37, 38, 39, 40, 41, 42, 43, 44, 45, 46, 47, 48, 49, 50, 51, 52, 53, 54, 55, 56, 57, 58, 59, 60, 61, 62, 63, 64

## Header 2
designator P?  (value not drawn)
接插件; LatestRevisionDate: 17-Jul-2002; LatestRevisionNote: Re-released for DXP Platform.; Publisher: Altium Limited
footprint HDR2X1_C (3.81接插件)
footprint HDR2X1_D1 (5.08mm端)
footprint HDR2X1_A (Connector; Header; 2 Position)
footprint HDR2X1_B2 (Connector; Header; 4 Position)
footprint HDR2X1_B1 (Connector; Header; 4 Position)
footprint HDR2X1_D2 (Connector; Header; 4 Position)
pins: 1, 2

## Header 2X2A
designator P?  (value not drawn)
接插件; LatestRevisionDate: 17-Jul-2002; LatestRevisionNote: Re-released for DXP Platform.; Publisher: Altium Limited
footprint HDR2X2_A (Connector; Header; 2 Position)
pins: 1, 2, 3, 4

## Header 2X2B
designator P?  (value not drawn)
接插件; LatestRevisionDate: 17-Jul-2002; LatestRevisionNote: Re-released for DXP Platform.; Publisher: Altium Limited
footprint HDR2X2_B (Connector; Header; 2 Position)
pins: 1, 2, 3, 4

## Header 3
designator P?  (value not drawn)
接插件; LatestRevisionDate: 17-Jul-2002; LatestRevisionNote: Re-released for DXP Platform.; Publisher: Altium Limited
footprint HDR3X1_B1 (Connector; Header; 3 Position)
footprint HDR3X1_A (Connector; Header; 3 Position)
footprint HDR3X1_C (3.81MM接插件)
footprint HDR3X1_D1 (5.08mm端子)
footprint HDR3X1_D2 (5.08mm端子)
footprint HDR3X1_B2 (Connector; Header; 3 Position)
footprint HDR3X1_B4 (Connector; Header; 4 Position)
pins: 1, 2, 3

## Header 4
designator P?  (value not drawn)
接插件; LatestRevisionDate: 17-Jul-2002; LatestRevisionNote: Re-released for DXP Platform.; Publisher: Altium Limited
footprint HDR4X1_A (Connector; Header; 4 Position)
footprint HDR4X1_B1 (Connector; Header; 4 Position)
footprint HDR4X1_B2 (Connector; Header; 4 Position)
footprint HDR4X1_F
footprint HDR4X1_C (3.81MM接插件)
pins: 1, 2, 3, 4

## Header 5X2
designator P?
接插件; LatestRevisionDate: 17-Jul-2002; LatestRevisionNote: Re-released for DXP Platform.; Publisher: Altium Limited
footprint HDR5X2_A3
footprint HDR5X2_A1 (Connector; Header; 5x2 Position)
footprint HDR5X2_B1_2.0
footprint HDR5X2_C2
pins: 1, 2, 3, 4, 5, 6, 7, 8, 9, 10

## Header 6
designator P?
接插件; LatestRevisionDate: 17-Jul-2002; LatestRevisionNote: Re-released for DXP Platform.; Publisher: Altium Limited
footprint HDR6X1_B2 (Connector; Header; 3 Position)
footprint HDR6X1_B1 (Connector; Header; 4 Position)
pins: 1, 2, 3, 4, 5, 6

## Header 7X2
designator P?
Header, 7-Pin; LatestRevisionDate: 17-Jul-2002; LatestRevisionNote: Re-released for DXP Platform.; Publisher: Altium Limited
footprint HDR7X2_A1 (Connector; Header; 7x2 Position)
footprint HDR7X2_B1 (Connector)
footprint HDR7X2_B1_2.0
pins: 1, 2, 3, 4, 5, 6, 7, 8, 9, 10, 11, 12, 13, 14

## Header 8
designator P?
Header, 8-Pin; LatestRevisionDate: 17-Jul-2002; LatestRevisionNote: Re-released for DXP Platform.; Publisher: Altium Limited
footprint PH2.0-8P
pins: 1, 2, 3, 4, 5, 6, 7, 8

## Header 8X2A
designator P?
接插件; LatestRevisionDate: 17-Jul-2002; LatestRevisionNote: Re-released for DXP Platform.; Publisher: Altium Limited
footprint HDR8X2_A1 (Connector; Header; 8x2 Position)
footprint HDR8X2_E1
pins: 1, 2, 3, 4, 5, 6, 7, 8, 9, 10, 11, 12, 13, 14, 15, 16

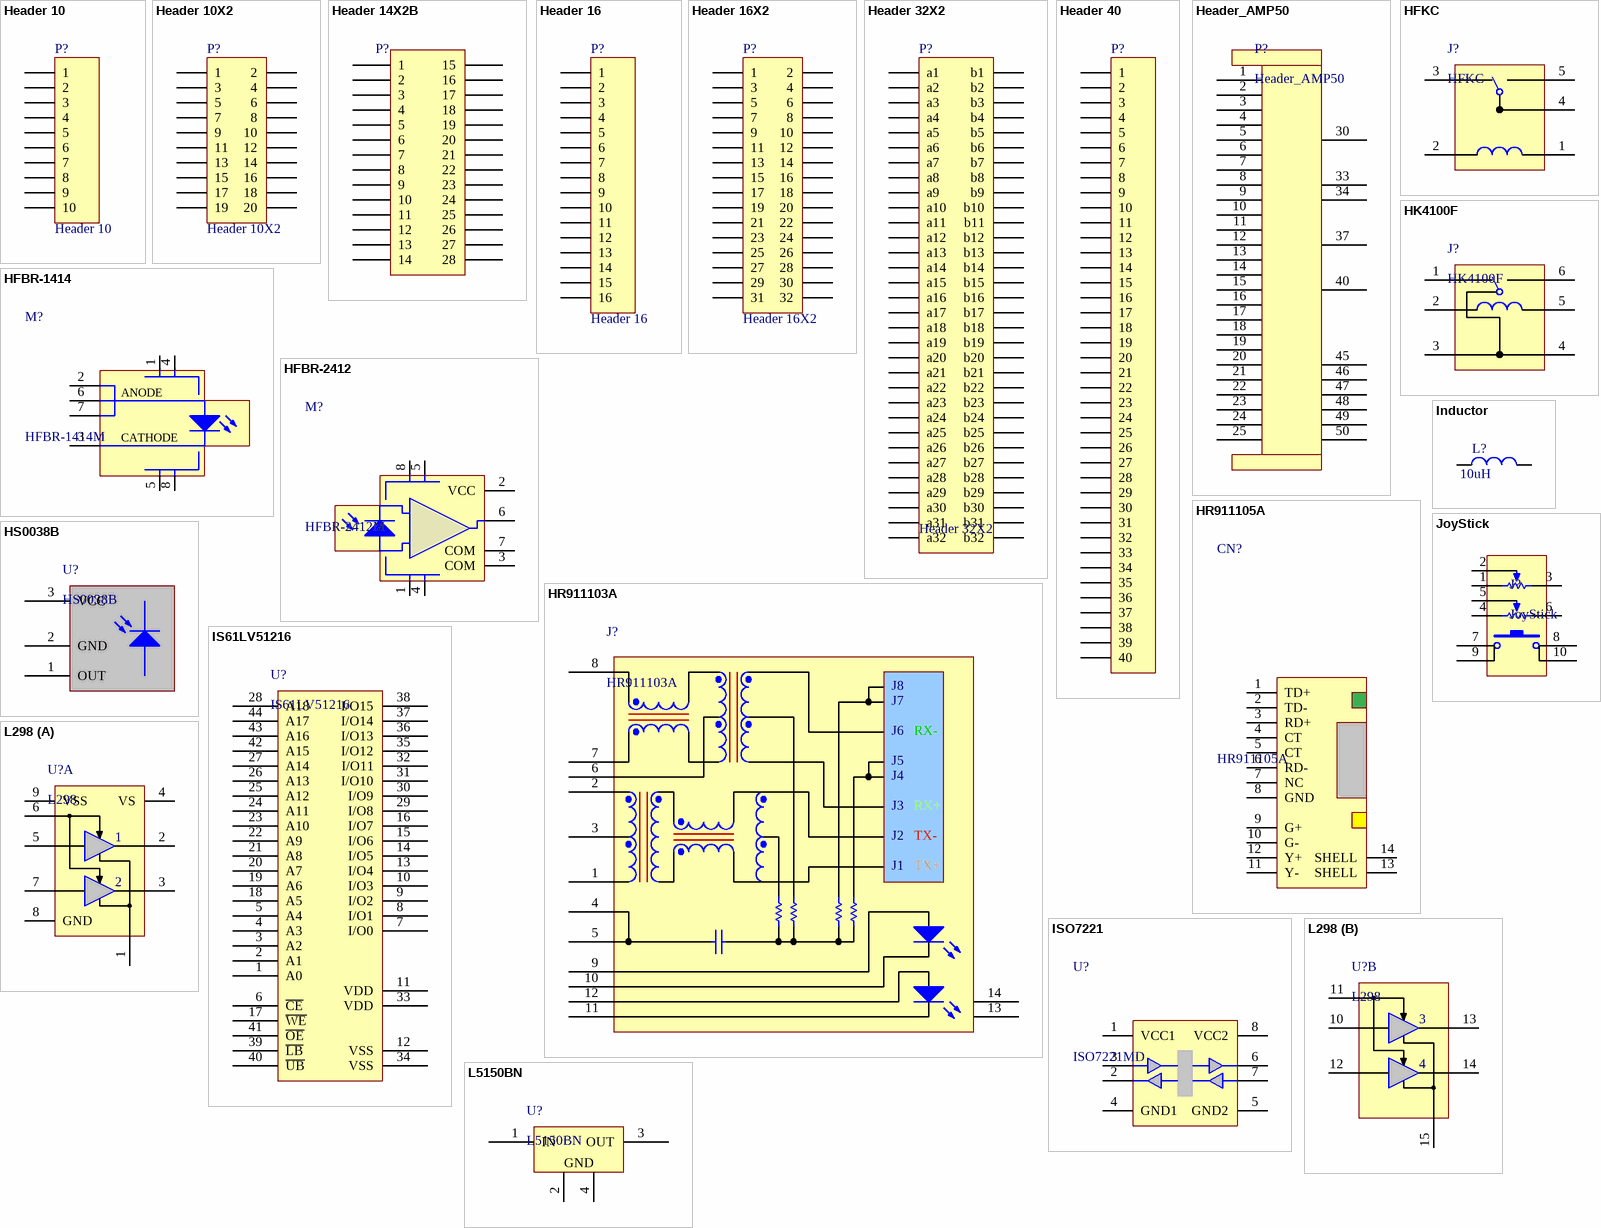
[diagram p3: symbols Header 10 to L5150BN]

## Header 10
designator P?
Header, 10-Pin; LatestRevisionDate: 17-Jul-2002; LatestRevisionNote: Re-released for DXP Platform.; Publisher: Altium Limited
footprint PH2.0-10P
pins: 1, 2, 3, 4, 5, 6, 7, 8, 9, 10

## Header 10X2
designator P?
Header, 10-Pin; LatestRevisionDate: 17-Jul-2002; LatestRevisionNote: Re-released for DXP Platform.; Publisher: Altium Limited
footprint HDR10X2_A1 (Connector; Header; 10x2 Position)
footprint HDR10X2_B1
footprint HDR10X2_B1_2.0
pins: 1, 2, 3, 4, 5, 6, 7, 8, 9, 10, 11, 12, 13, 14, 15, 16, 17, 18, 19, 20

## Header 14X2B
designator P?  (value not drawn)
2*14双排插针
footprint HDR14X2_A2
pins: 1 (power), 2 (power), 3 (power), 4 (power), 5 (power), 6 (power), 7 (power), 8 (power), 9 (power), 10 (power), 11 (power), 12 (power), 13 (power), 14 (power), 15 (power), 16 (power), 17 (power), 18 (power), 19 (power), 20 (power), 21 (power), 22 (power), 23 (power), 24 (power), 25 (power), 26 (power), 27 (power), 28 (power)

## Header 16
designator P?
Header16贴片; LatestRevisionDate: 17-Jul-2002; LatestRevisionNote: Re-released for DXP Platform.; Publisher: Altium Limited
footprint HDR16X1_A (Connector; Header; 16 Position)
footprint FPC1.0-16P-A (FPC)
pins: 1, 2, 3, 4, 5, 6, 7, 8, 9, 10, 11, 12, 13, 14, 15, 16

## Header 16X2
designator P?
接插件; LatestRevisionDate: 17-Jul-2002; LatestRevisionNote: Re-released for DXP Platform.; Publisher: Altium Limited
footprint HDR16X2 (Connector; Header; 16x2 Position)
footprint HDR16X2-HB
pins: 1, 2, 3, 4, 5, 6, 7, 8, 9, 10, 11, 12, 13, 14, 15, 16, 17, 18, 19, 20, 21, 22, 23, 24, 25, 26, 27, 28, 29, 30, 31, 32

## Header 32X2
designator P?
接插件; LatestRevisionDate: 17-Jul-2002; LatestRevisionNote: Re-released for DXP Platform.; Publisher: Altium Limited
footprint HDR32X2_HA (Connector; Header; 30x2 Position)
footprint HDR32X2_HB (Connector; Header; 30x2 Position)
pins: a1, a2, a3, a4, a5, a6, a7, a8, a9, a10, a11, a12, a13, a14, a15, a16, a17, a18, a19, a20, a21, a22, a23, a24, a25, a26, a27, a28, a29, a30, a31, a32, b1, b2, b3, b4, b5, b6, b7, b8, b9, b10, b11, b12, b13, b14, b15, b16, b17, b18, b19, b20, b21, b22, b23, b24, b25, b26, b27, b28, b29, b30, b31, b32

## Header 40
designator P?  (value not drawn)
接插件; LatestRevisionDate: 17-Jul-2002; LatestRevisionNote: Re-released for DXP Platform.; Publisher: Altium Limited
footprint HDR40X1_A (Connector; Header; 30 Position)
pins: 1, 2, 3, 4, 5, 6, 7, 8, 9, 10, 11, 12, 13, 14, 15, 16, 17, 18, 19, 20, 21, 22, 23, 24, 25, 26, 27, 28, 29, 30, 31, 32, 33, 34, 35, 36, 37, 38, 39, 40

## Header_AMP50
designator P?
控制器接插件
footprint HDR25X2_H (控制器接插件)
pins: 1, 2, 3, 4, 5, 6, 7, 8, 9, 10, 11, 12, 13, 14, 15, 16, 17, 18, 19, 20, 21, 22, 23, 24, 25, 30, 33, 34, 37, 40, 45, 46, 47, 48, 49, 50

## HFBR-1414
designator M?, comment HFBR-1414M
光发送
footprint HFBR-X41XMZ
pins: 1 NC, 2 ANODE, 3 CATHODE, 4 NC, 5 NC, 6 ANODE, 7 ANODE, 8 NC

## HFBR-2412
designator M?, comment HFBR-2412M
光接收
footprint HFBR-X41XMZ
pins: 1 NC, 2 VCC, 3 COM, 4 NC, 5 NC, 6 DATA, 7 COM, 8 NC

## HFKC
designator J?
单刀双掷继电器
footprint HFKC (继电器)
pins: 1, 2, 3, 4, 5

## HK4100F
designator J?
单刀双掷继电器
footprint HK4100F (继电器)
pins: 1, 2, 3, 4, 5, 6

## HR911103A
designator J?
网络接口; PackageDocument: 1988; Published: 24-Mar-1999; LatestRevisionDate: 17-Jul-2002; LatestRevisionNote: Re-released for DXP Platform.; PackageReference: 425; Publisher: Altium Limited
footprint RJ8-HR911103A (网线接口)
pins: 1 TD+, 2 TD-, 3 TD-, 4 TD-, 5 GND, 6 GND, 7 RD+, 8 RD-, 9 GLED+, 10 GLED-, 11 YLED-, 12 YLED+, 13, 14
text: J8; J7; J6; RX-; J5; J4; J3; RX+; J2; TX-; J1; TX+

## HR911105A
designator CN?
以太网接口
footprint RJ8-HR911105B
footprint RJ8-HR911105A
pins: 1 TD+, 2 TD-, 3 RD+, 4 CT, 5 CT, 6 RD-, 7 NC, 8 GND, 9 G+, 10 G-, 11 Y-, 12 Y+, 13 SHELL, 14 SHELL

## HS0038B
designator U?
红外接收器
footprint HS0038B (红外接收头)
pins: 1 OUT, 2 GND, 3 VCC

## Inductor
designator L?  value 10uH  (hidden comment: Inductor)
电感; Code_IEC: 1005; Published: 8-Jun-2000; LatestRevisionDate: 17-Jul-2002; LatestRevisionNote: Re-released for DXP Platform.; PackageReference: 0402-A; Publisher: Altium Limited; Code_JEITA: 0402
footprint L-SMD-7 (贴片电感7*7)
footprint L-RB-8 (Inductor)
footprint 1206 (10UH贴片电感)
footprint 0805-1 (贴片带丝印)
footprint L-RB-8F (直?)
footprint L-SMD-10 (贴片电感10*10)
footprint L-SMD-12 (贴片电感12*12)
pins: 1, 2

## IS61LV51216
designator U?
静态RAM
footprint TSOP-44N (TSOP, 44-Leads, Body 18.2x10.0mm (max), Pitch 0.80mm, IPC Medium Density)
pins: 1 A0, 2 A1, 3 A2, 4 A3, 5 A4, 6 ~{CE}, 7 I/O0, 8 I/O1, 9 I/O2, 10 I/O3, 11 VDD, 12 VSS, 13 I/O4, 14 I/O5, 15 I/O6, 16 I/O7, 17 ~{WE}, 18 A5, 19 A6, 20 A7, 21 A8, 22 A9, 23 A10, 24 A11, 25 A12, 26 A13, 27 A14, 28 A18, 29 I/O8, 30 I/O9, 31 I/O10, 32 I/O11, 33 VDD, 34 VSS, 35 I/O12, 36 I/O13, 37 I/O14, 38 I/O15, 39 ~{LB}, 40 ~{UB}, 41 ~{OE}, 42 A15, 43 A16, 44 A17

## ISO7221
designator U?, comment ISO7221MD
隔离芯片
footprint NSO8_N (SOIC-max660)
pins: 1 VCC1, 2 OutA, 3 B, 4 GND1, 5 GND2, 6 OutB, 7 InA, 8 VCC2

## JoyStick
designator J?
模拟摇杆
footprint JoyStick (模拟摇杆)
pins: 1 BOT, 2 TAP, 3 TOP, 4 BOT, 5 TAP, 6 TOP, 7, 8, 9, 10

## L298
designator U?
ST双电桥
footprint Multiwatt15-V
part A pins: 1 SENSEA, 2 OUT1, 3 OUT2, 4 VS, 5 IN1, 6 ENA, 7 IN2, 8 GND, 9 VSS
part B pins: 10 IN3, 11 ENB, 12 IN4, 13 OUT3, 14 OUT4, 15 SENSEB

## L5150BN
designator U?
5V稳压芯片
footprint SOT-223 (ASM1117 -3.3V)
pins: 1 IN, 2 GND, 3 OUT, 4 GND

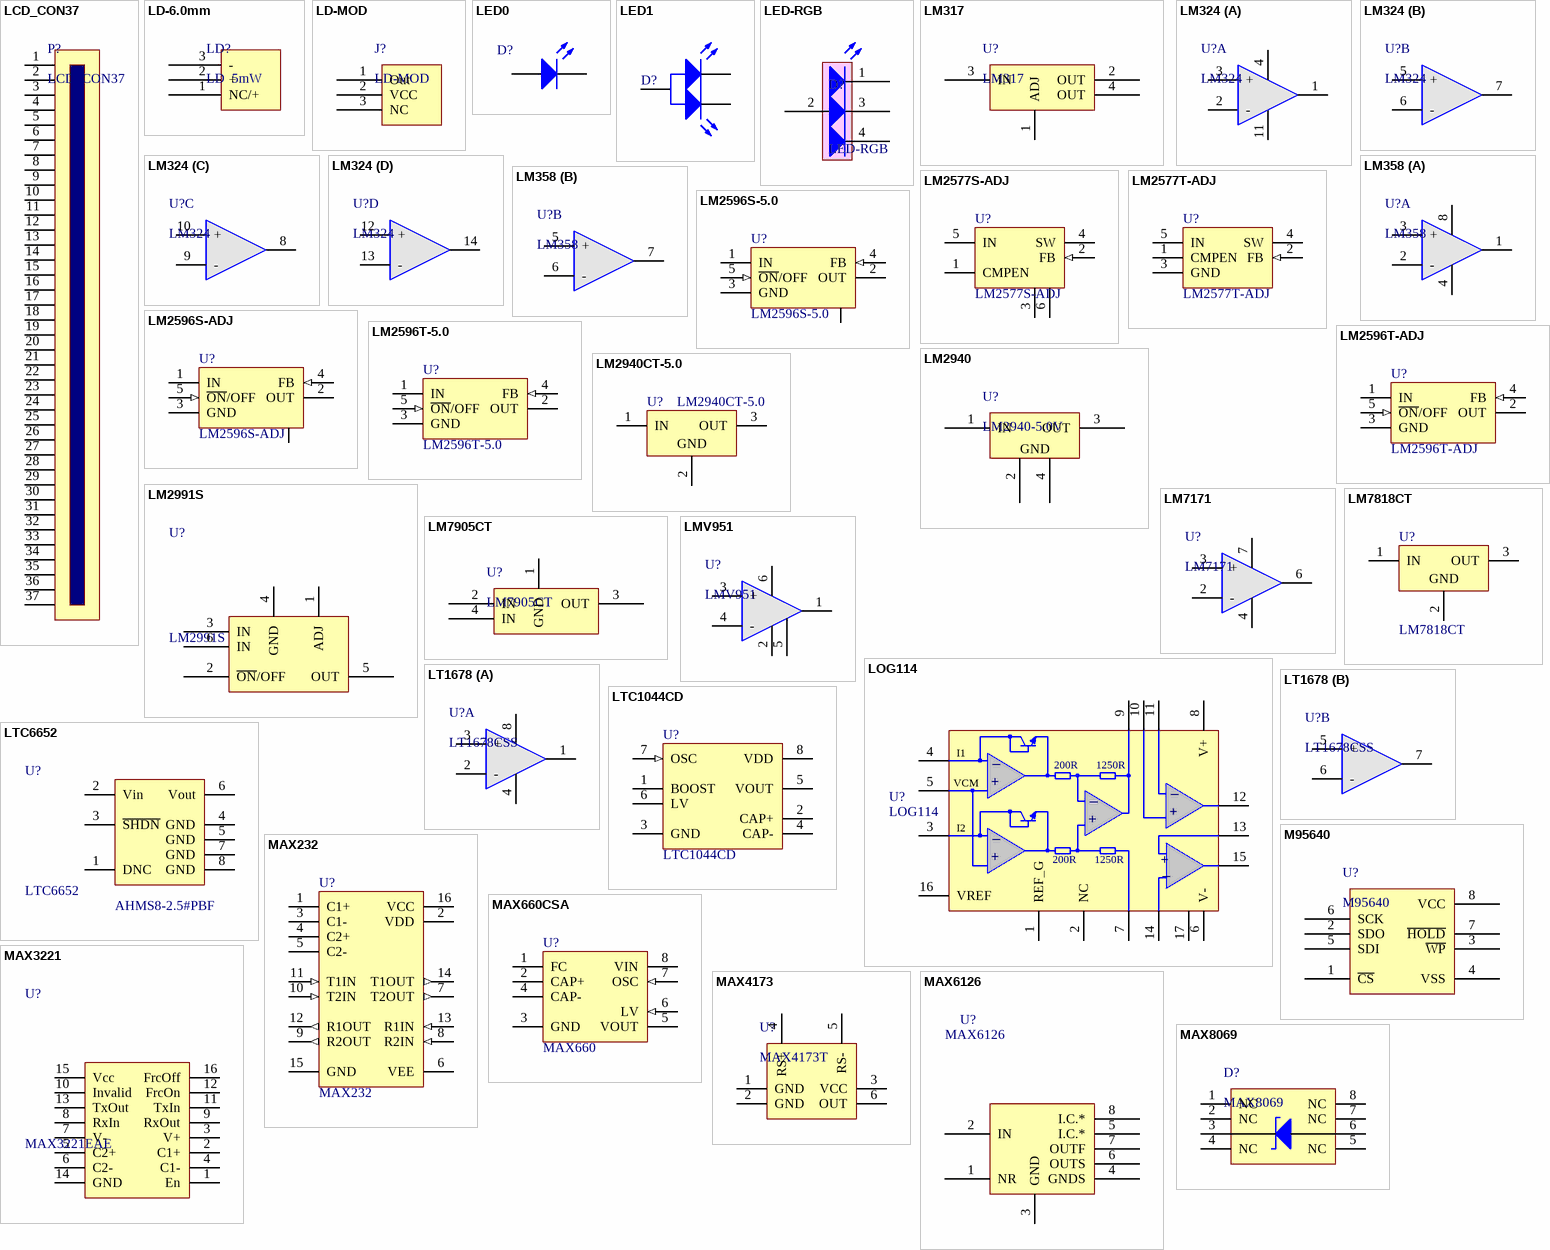
[diagram p4: symbols LCD_CON37 to MAX8069]

## LCD_CON37
designator P?
LCD接口
footprint HDR37X1_F
pins: 1, 2, 3, 4, 5, 6, 7, 8, 9, 10, 11, 12, 13, 14, 15, 16, 17, 18, 19, 20, 21, 22, 23, 24, 25, 26, 27, 28, 29, 30, 31, 32, 33, 34, 35, 36, 37

## LD-6.0mm
designator LD?, comment LD  5mW
5MW激光
footprint LD-6.0 (激光直径6.0mm)
pins: 1 NC/+ (power), 2 + (power), 3 - (power)

## LD-MOD
designator J?
激光调制管
footprint LD-MOD (激光调制管)
pins: 1 Out (power), 2 VCC (power), 3 NC (power)

## LED0
designator D?  (value not drawn)
发光二极管; Published: 8-Jun-2000; LatestRevisionDate: 08-Jul-2005; LatestRevisionNote: Mech Layer 1 removed.; PackageReference: LED-0; Publisher: Altium Limited
footprint LED_A1 (直径3MM发?)
footprint LED_0805 (贴片二?)
footprint LED_A2 (直径3MM?)
footprint LED-3528 (贴片二极管)
pins: 1 A, 2 K

## LED1
designator D?  (value not drawn)
双色LED; Published: 8-Jun-2000; LatestRevisionDate: 08-Jul-2005; LatestRevisionNote: Mech Layer 1 removed.; PackageReference: LED-0; Publisher: Altium Limited
footprint LED_A3 (直径3MM二极管)
pins: 1 K1, 2 A, 3 K2

## LED-RGB
designator D?
三基色LED; Published: 8-Jun-2000; LatestRevisionDate: 08-Jul-2005; LatestRevisionNote: Mech Layer 1 removed.; PackageReference: LED-0; Publisher: Altium Limited
footprint LED-RGB
pins: 1 R, 2 A, 3 G, 4 B

## LM317
designator U?
稳压芯片
footprint SOT-223 (ASM1117 -3.3V)
pins: 1 ADJ, 2 OUT, 3 IN, 4 OUT

## LM324
designator U?
4运放SOP8芯片
footprint SOP-14N (SOP, 14-Leads,)
part A pins: 1 OUT, 2 -, 3 +, 4 V+, 11 V-
part B pins: 5 +, 6 -, 7 OUT
part C pins: 8 OUT, 9 -, 10 +
part D pins: 12 +, 13 -, 14 OUT

## LM358
designator U?
双运放
footprint NSO8_N (SOIC-max660)
part A pins: 1 OUT1, 2 -, 3 +, 4 V- (power), 8 V+ (power)
part B pins: 5 +, 6 -, 7 OUT2

## LM2577S-ADJ
designator U?
DC升压; Note: Tab is connected to GND; Published: 15-Apr-2002; DatasheetVersion: Jun-1999; PackageVersion: 2000; PackageReference: T05A; Publisher: Altium Limited; PackageDescription: TO, Thru-Hole, Vertical, Heatsink Mounted; 5 In-Line Leads; Pitch 1.70 mm; Code_JEDEC: TS-001-AA; ComponentLink1Description: Manufacturer Link; ComponentLink1URL: http://www.national.com/; ComponentLink2Description: Datasheet; ComponentLink2URL: http://www.national.com/ds.cgi/LM/LM1577.pdf; ComponentLink3Description: URL Link1; ComponentLink3URL: http://www.national.com/pf/LM/LM2577.html
footprint TO-263-5 (贴片LM2596)
pins: 1 CMPEN, 2 FB (in), 3 GND (power), 4 SW (power), 5 IN (power), 6

## LM2577T-ADJ
designator U?
DC升压; Note: Tab is connected to GND; Published: 15-Apr-2002; DatasheetVersion: Jun-1999; PackageVersion: 2000; PackageReference: T05A; Publisher: Altium Limited; PackageDescription: TO, Thru-Hole, Vertical, Heatsink Mounted; 5 In-Line Leads; Pitch 1.70 mm; Code_JEDEC: TS-001-AA; ComponentLink1Description: Manufacturer Link; ComponentLink1URL: http://www.national.com/; ComponentLink2Description: Datasheet; ComponentLink2URL: http://www.national.com/ds.cgi/LM/LM1577.pdf; ComponentLink3Description: URL Link1; ComponentLink3URL: http://www.national.com/pf/LM/LM2577.html
footprint T05A (TO, Thru-Hole, Vertical, Heatsink Mounted; 5 In-Line Leads; Pitch 1.70 mm)
footprint T05D
pins: 1 CMPEN, 2 FB (in), 3 GND (power), 4 SW (power), 5 IN (power)

## LM2596S-5.0
designator U?
5V稳压芯片; Note: Tab is connected to GND; Published: 15-Apr-2002; DatasheetVersion: Dec-1997; PackageReference: TS5B; Publisher: Altium Limited; PackageDescription: D2-PAK; 5 Leads; Body 14.4 (inc. leads) x 10.4 mm (LxW max); ComponentLink1Description: Manufacturer Link; ComponentLink1URL: http://www.national.com/; ComponentLink2Description: Datasheet; ComponentLink2URL: http://www.national.com/ds.cgi/LM/LM2596.pdf; ComponentLink3Description: URL Link1; ComponentLink3URL: http://www.national.com/pf/LM/LM2596.html
footprint TO-263-5 (贴片LM2596)
pins: 1 IN (power), 2 OUT (power), 3 GND (power), 4 FB (in), 5 ~{ON}/OFF (in), 6 (power)

## LM2596S-ADJ
designator U?
可调稳压芯片; Note: Tab is connected to GND; Published: 15-Apr-2002; DatasheetVersion: Dec-1997; PackageReference: TS5B; Publisher: Altium Limited; PackageDescription: D2-PAK; 5 Leads; Body 14.4 (inc. leads) x 10.4 mm (LxW max); ComponentLink1Description: Manufacturer Link; ComponentLink1URL: http://www.national.com/; ComponentLink2Description: Datasheet; ComponentLink2URL: http://www.national.com/ds.cgi/LM/LM2596.pdf; ComponentLink3Description: URL Link1; ComponentLink3URL: http://www.national.com/pf/LM/LM2596.html
footprint TO-263-5 (贴片LM2596)
pins: 1 IN (power), 2 OUT (power), 3 GND (power), 4 FB (in), 5 ~{ON}/OFF (in), 6 (power)

## LM2596T-5.0
designator U?
5V稳压芯片; Note: Tab is connected to GND; Published: 15-Apr-2002; DatasheetVersion: Dec-1997; PackageReference: TS5B; Publisher: Altium Limited; PackageDescription: D2-PAK; 5 Leads; Body 14.4 (inc. leads) x 10.4 mm (LxW max); ComponentLink1Description: Manufacturer Link; ComponentLink1URL: http://www.national.com/; ComponentLink2Description: Datasheet; ComponentLink2URL: http://www.national.com/ds.cgi/LM/LM2596.pdf; ComponentLink3Description: URL Link1; ComponentLink3URL: http://www.national.com/pf/LM/LM2596.html
footprint T05A (TO, Thru-Hole, Vertical, Heatsink Mounted; 5 In-Line Leads; Pitch 1.70 mm)
footprint T05D
pins: 1 IN (power), 2 OUT (power), 3 GND (power), 4 FB (in), 5 ~{ON}/OFF (in)

## LM2596T-ADJ
designator U?
可调稳压芯片; Note: Tab is connected to GND; Published: 15-Apr-2002; DatasheetVersion: Dec-1997; PackageReference: TS5B; Publisher: Altium Limited; PackageDescription: D2-PAK; 5 Leads; Body 14.4 (inc. leads) x 10.4 mm (LxW max); ComponentLink1Description: Manufacturer Link; ComponentLink1URL: http://www.national.com/; ComponentLink2Description: Datasheet; ComponentLink2URL: http://www.national.com/ds.cgi/LM/LM2596.pdf; ComponentLink3Description: URL Link1; ComponentLink3URL: http://www.national.com/pf/LM/LM2596.html
footprint T05A (TO, Thru-Hole, Vertical, Heatsink Mounted; 5 In-Line Leads; Pitch 1.70 mm)
footprint T05D
pins: 1 IN (power), 2 OUT (power), 3 GND (power), 4 FB (in), 5 ~{ON}/OFF (in)

## LM2940
designator U?, comment LM2940-5.0V
5V稳压芯片
footprint TO-263-3 (LM2940/LM1086)
pins: 1 IN (power), 2 GND (power), 3 OUT (power), 4 GND (power)

## LM2940CT-5.0
designator U?
1A 5V; Note: Tab is connected to GND; Published: 15-Apr-2002; DatasheetVersion: Jun-1999; PackageVersion: 1995; PackageReference: T03B; Publisher: Altium Limited; PackageDescription: TO, Thru-Hole, Vertical, Heatsink Mounted; 3 In-Line Leads; Pitch 2.54 mm; ComponentLink1Description: Manufacturer Link; ComponentLink1URL: http://www.national.com/; ComponentLink2Description: Datasheet; ComponentLink2URL: http://www.national.com/ds.cgi/LM/LM2940.pdf; ComponentLink3Description: URL Link1; ComponentLink3URL: http://www.national.com/pf/LM/LM2940C.html
footprint T03B (TO, Thru-Hole, Vertical, Heatsink Mounted; 3 In-Line Leads; Pitch 2.54 mm)
pins: 1 IN (power), 2 GND (power), 3 OUT (power)

## LM2991S
designator U?
稳压芯片
footprint TO-263-5 (贴片LM2596)
pins: 1 ADJ, 2 ~{ON}/OFF, 3 IN, 4 GND, 5 OUT, 6 IN

## LM7171
designator U?
单运放
footprint NSO8_N (SOIC-max660)
pins: 2 -, 3 +, 4 V- (power), 6 OUT1, 7 V+ (power)

## LM7818CT
designator U?
Series 3-Terminal Positive Regulator; Note: Tab is connected to GND; ComponentAvailability: Obsolete; Published: 15-Apr-2002; DatasheetVersion: May-1999; PackageVersion: 1995; PackageReference: T03B; Publisher: Altium Limited; PackageDescription: TO, Thru-Hole, Vertical, Heatsink Mounted; 3 In-Line Leads; Pitch 2.54 mm; ComponentLink1Description: Manufacturer Link; ComponentLink1URL: http://www.national.com/; ComponentLink2Description: Discontinuation Notice; ComponentLink2URL: http://www.national.com/obs/obsolescence.txt
footprint T03B (TO, Thru-Hole, Vertical, Heatsink Mounted; 3 In-Line Leads; Pitch 2.54 mm)
pins: 1 IN (power), 2 GND (power), 3 OUT (power)

## LM7905CT
designator U?
稳压芯片
footprint SOT-223 (ASM1117 -3.3V)
footprint TO-263-3 (LM2940/LM1086)
pins: 1 GND, 2 IN, 3 OUT, 4 IN

## LMV951
designator U?
超低功耗运放
footprint SOT23-6 (Max4173)
pins: 1 OUT1, 2 V- (power), 3 +, 4 -, 5 S (power), 6 V+ (power)

## LOG114
designator U?
光电检测
footprint QFN-16 (QFN)
pins: 1 REF_G, 2 NC, 3 I2, 4 I1, 5 Vcmin, 6 V-, 7 CON, 8 V+, 9 VlogOUT, 10 +IN4, 11 -IN4, 12 VO4, 13 +IN5, 14 -IN5, 15 VO5, 16 VREF, 17 PAD
text: _; 200R; 1250R; VCM; +

## LT1678
designator U?, comment LT1678CSS
双运放
footprint NSO8_N (SOIC-max660)
part A pins: 1 OUT1, 2 -, 3 +, 4 V- (power), 8 V+ (power)
part B pins: 5 +, 6 -, 7 OUT2

## LTC1044CD
designator U?
Switched-Capacitor Voltage Converter; Published: 15-Apr-2002; LatestRevisionDate: 13-Apr-2006; LatestRevisionNote: IPC-7351 Footprint Added.; DatasheetVersion: Jan-1989; PackageVersion: Jan-1998; PackageReference: D008; Publisher: Altium Limited; PackageDescription: 8-Pin Small Outline Integrated Circuit 1.27 mm Pitch; Code_IPC: SOIC127P600-8; ComponentLink1Description: Manufacturer Link; ComponentLink1URL: http://www.ti.com/
footprint SOIC8_N (8-Pin Small Outline Integrated Circuit Package (SOIC8), IPC Medium Density)
pins: 1 BOOST, 2 CAP+, 3 GND (power), 4 CAP-, 5 VOUT (power), 6 LV, 7 OSC (in), 8 VDD (power)

## LTC6652
designator U?  Type: AHMS8-2.5#PBF
电压基准
footprint MSOP-MS8_M (TSOP, 8-Leads, Body 3x3mm, Pitch 0.65mm, IPC Low Density)
pins: 1 DNC, 2 Vin, 3 ~{SHDN}, 4 GND, 5 GND, 6 Vout, 7 GND, 8 GND
2 alternate drawings of the same symbol

## M95640
designator U?
footprint NSO8_N (SOIC-max660)
pins: 1 ~{CS}, 2 SDO, 3 ~{WP}, 4 VSS, 5 SDI, 6 SCK, 7 ~{HOLD}, 8 VCC

## MAX232
designator U?
+5V Powered, Multi-Channel RS-232 Driver/Receiver; Published: 16-Jan-2001; LatestRevisionDate: 13-Apr-2006; LatestRevisionNote: IPC-7351 Footprint Added.; PackageReference: NSO16; Publisher: Altium Limited; PackageDescription: 16-Pin Small Outline Integrated Circuit 1.27 mm Pitch; Code_JEDEC: MS-012-AC; Code_IPC: SOIC127P600-16; ComponentLink1Description: Manufacturer Link; ComponentLink1URL: http://www.maxim-ic.com/; ComponentLink2Description: Datasheet; ComponentLink2URL: http://pdfserv.maxim-ic.com/en/ds/MAX220-MAX249.pdf
footprint NSO16_M (SOIC, 16-Leads, Body 9.9x3.9mm, Pitch 1.27mm, IPC Low Density)
pins: 1 C1+, 2 VDD (power), 3 C1-, 4 C2+, 5 C2-, 6 VEE (power), 7 T2OUT (out), 8 R2IN (in), 9 R2OUT (out), 10 T2IN (in), 11 T1IN (in), 12 R1OUT (out), 13 R1IN (in), 14 T1OUT (out), 15 GND (power), 16 VCC (power)

## MAX660CSA
designator U?, comment MAX660
-5V电源芯片; Published: 16-Jan-2001; LatestRevisionDate: 13-Apr-2006; LatestRevisionNote: IPC-7351 Footprint Added.; DatasheetVersion: Sep-1996; PackageReference: NSO8; Publisher: Altium Limited; PackageDescription: 8-Pin Small Outline Integrated Circuit 1.27 mm Pitch; Code_JEDEC: MS-012-AA; Code_IPC: SOIC127P600-8; ComponentLink1Description: Manufacturer Link; ComponentLink1URL: http://www.maxim-ic.com/; ComponentLink2Description: Datasheet; ComponentLink2URL: http://pdfserv.maxim-ic.com/en/ds/MAX660.pdf
footprint NSO8_N (SOIC-max660)
pins: 1 FC, 2 CAP+, 3 GND (power), 4 CAP-, 5 VOUT (power), 6 LV (in), 7 OSC (in), 8 VIN (power)

## MAX3221
designator U?, comment MAX3221EAE
串口电平转换
footprint TSSOP16_M (TSOP, 16-Leads, Body 5x4.4mm, Pitch 0.65mm, IPC Low Density)
pins: 1 En, 2 C1+, 3 V+, 4 C1-, 5 C2+, 6 C2-, 7 V-, 8 RxIn, 9 RxOut, 10 Invalid, 11 TxIn, 12 FrcOn, 13 TxOut, 14 GND, 15 Vcc, 16 FrcOff

## MAX4173
designator U?, comment MAX4173T
高端电流检测
footprint SOT23-6 (Max4173)
pins: 1 GND, 2 GND, 3 VCC, 4 RS+, 5 RS-, 6 OUT

## MAX6126
designator U?
电压基准
footprint NSO8_N (SOIC-max660)
pins: 1 NR, 2 IN, 3 GND, 4 GNDS, 5 I.C.*, 6 OUTS, 7 OUTF, 8 I.C.*

## MAX8069
designator D?
1.2V稳压二极管
footprint SOIC8_N (8-Pin Small Outline Integrated Circuit Package (SOIC8), IPC Medium Density)
pins: 1 NC, 2 NC, 3 C, 4 NC, 5 NC, 6 A, 7 NC, 8 NC

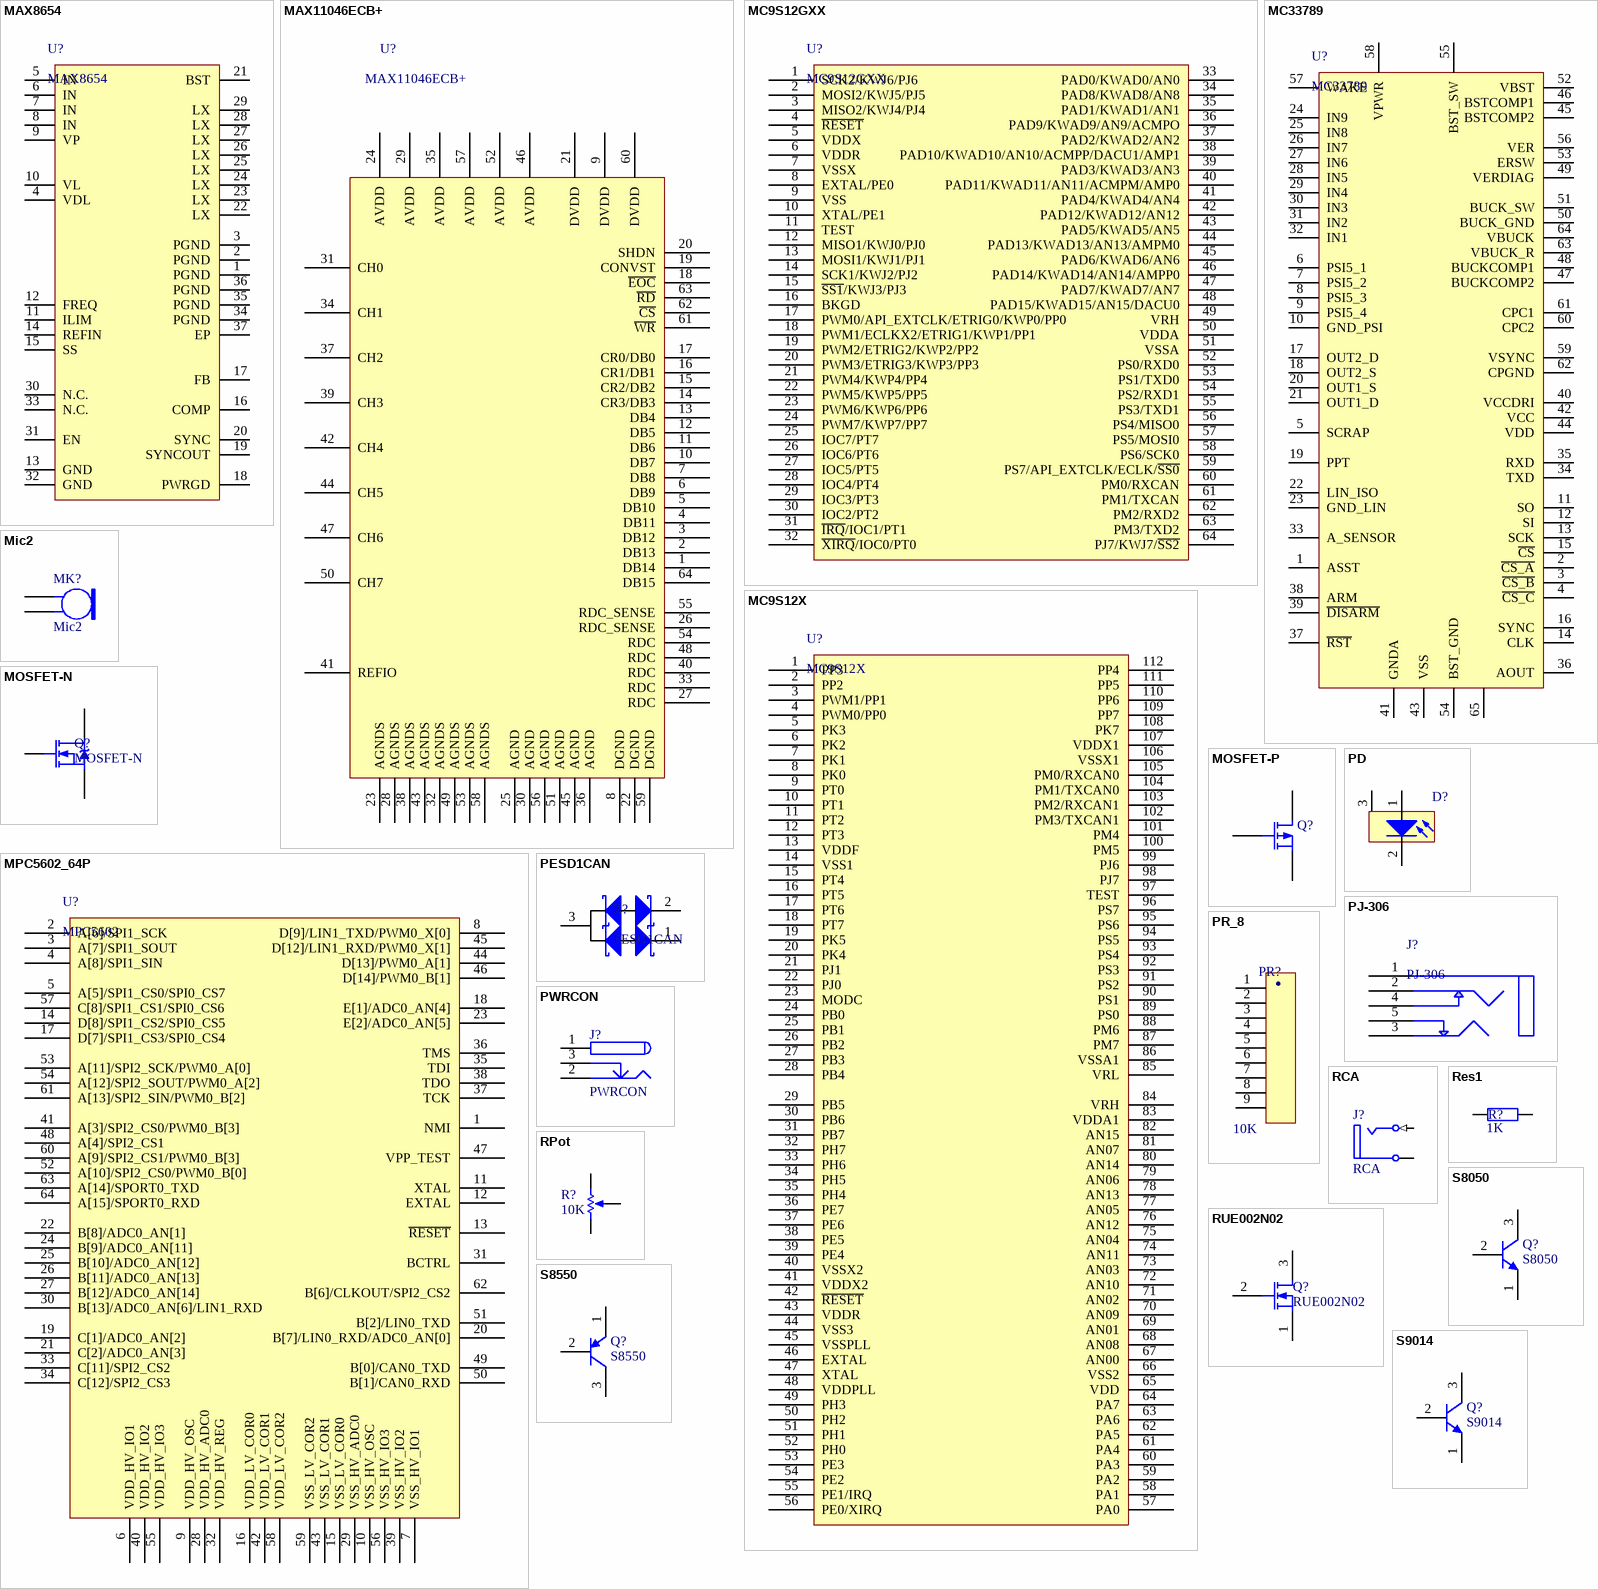
[diagram p5: symbols MAX8654 to S9014]

## MAX8654
designator U?
footprint VFQN36_V (QFN, 36-Leads, Body 6x6mm, Pitch 0.5mm, ST Recommended)
pins: 1 PGND, 2 PGND, 3 PGND, 4 VDL, 5 IN, 6 IN, 7 IN, 8 IN, 9 VP, 10 VL, 11 ILIM, 12 FREQ, 13 GND, 14 REFIN, 15 SS, 16 COMP, 17 FB, 18 PWRGD, 19 SYNCOUT, 20 SYNC, 21 BST, 22 LX, 23 LX, 24 LX, 25 LX, 26 LX, 27 LX, 28 LX, 29 LX, 30 N.C., 31 EN, 32 GND, 33 N.C., 34 PGND, 35 PGND, 36 PGND, 37 EP

## MAX11046ECB+
designator U?
AD转换
footprint TQFP64_EP
pins: 1 DB14, 2 DB13, 3 DB12, 4 DB11, 5 DB10, 6 DB9, 7 DB8, 8 DGND, 9 DVDD, 10 DB7, 11 DB6, 12 DB5, 13 DB4, 14 CR3/DB3, 15 CR2/DB2, 16 CR1/DB1, 17 CR0/DB0, 18 ~{EOC}, 19 CONVST, 20 SHDN, 21 DVDD, 22 DGND, 23 AGNDS, 24 AVDD, 25 AGND, 26 RDC_SENSE, 27 RDC, 28 AGNDS, 29 AVDD, 30 AGND, 31 CH0, 32 AGNDS, 33 RDC, 34 CH1, 35 AVDD, 36 AGND, 37 CH2, 38 AGNDS, 39 CH3, 40 RDC, 41 REFIO, 42 CH4, 43 AGNDS, 44 CH5, 45 AGND, 46 AVDD, 47 CH6, 48 RDC, 49 AGNDS, 50 CH7, 51 AGND, 52 AVDD, 53 AGNDS, 54 RDC, 55 RDC_SENSE, 56 AGND, 57 AVDD, 58 AGNDS, 59 DGND, 60 DVDD, 61 ~{WR}, 62 ~{CS}, 63 ~{RD}, 64 DB15

## MC9S12GXX
designator U?
飞思卡尔单片机
footprint LQFP-64 (LQFP64)
pins: 1 SCK2/KWJ6/PJ6, 2 MOSI2/KWJ5/PJ5, 3 MISO2/KWJ4/PJ4, 4 ~{RESET}, 5 VDDX, 6 VDDR, 7 VSSX, 8 EXTAL/PE0, 9 VSS, 10 XTAL/PE1, 11 TEST, 12 MISO1/KWJ0/PJ0, 13 MOSI1/KWJ1/PJ1, 14 SCK1/KWJ2/PJ2, 15 ~{SS1}/KWJ3/PJ3, 16 BKGD, 17 PWM0/API_EXTCLK/ETRIG0/KWP0/PP0, 18 PWM1/ECLKX2/ETRIG1/KWP1/PP1, 19 PWM2/ETRIG2/KWP2/PP2, 20 PWM3/ETRIG3/KWP3/PP3, 21 PWM4/KWP4/PP4, 22 PWM5/KWP5/PP5, 23 PWM6/KWP6/PP6, 24 PWM7/KWP7/PP7, 25 IOC7/PT7, 26 IOC6/PT6, 27 IOC5/PT5, 28 IOC4/PT4, 29 IOC3/PT3, 30 IOC2/PT2, 31 ~{IRQ}/IOC1/PT1, 32 ~{XIRQ}/IOC0/PT0, 33 PAD0/KWAD0/AN0, 34 PAD8/KWAD8/AN8, 35 PAD1/KWAD1/AN1, 36 PAD9/KWAD9/AN9/ACMPO, 37 PAD2/KWAD2/AN2, 38 PAD10/KWAD10/AN10/ACMPP/DACU1/AMP1, 39 PAD3/KWAD3/AN3, 40 PAD11/KWAD11/AN11/ACMPM/AMP0, 41 PAD4/KWAD4/AN4, 42 PAD12/KWAD12/AN12, 43 PAD5/KWAD5/AN5, 44 PAD13/KWAD13/AN13/AMPM0, 45 PAD6/KWAD6/AN6, 46 PAD14/KWAD14/AN14/AMPP0, 47 PAD7/KWAD7/AN7, 48 PAD15/KWAD15/AN15/DACU0, 49 VRH, 50 VDDA, 51 VSSA, 52 PS0/RXD0, 53 PS1/TXD0, 54 PS2/RXD1, 55 PS3/TXD1, 56 PS4/MISO0, 57 PS5/MOSI0, 58 PS6/SCK0, 59 PS7/API_EXTCLK/ECLK/~{SS0}, 60 PM0/RXCAN, 61 PM1/TXCAN, 62 PM2/RXD2, 63 PM3/TXD2, 64 PJ7/KWJ7/~{SS2}

## MC9S12X
designator U?
飞思卡尔单片机
footprint LQFP112
pins: 1 PP3, 2 PP2, 3 PWM1/PP1, 4 PWM0/PP0, 5 PK3, 6 PK2, 7 PK1, 8 PK0, 9 PT0, 10 PT1, 11 PT2, 12 PT3, 13 VDDF, 14 VSS1, 15 PT4, 16 PT5, 17 PT6, 18 PT7, 19 PK5, 20 PK4, 21 PJ1, 22 PJ0, 23 MODC, 24 PB0, 25 PB1, 26 PB2, 27 PB3, 28 PB4, 29 PB5, 30 PB6, 31 PB7, 32 PH7, 33 PH6, 34 PH5, 35 PH4, 36 PE7, 37 PE6, 38 PE5, 39 PE4, 40 VSSX2, 41 VDDX2, 42 ~{RESET}, 43 VDDR, 44 VSS3, 45 VSSPLL, 46 EXTAL, 47 XTAL, 48 VDDPLL, 49 PH3, 50 PH2, 51 PH1, 52 PH0, 53 PE3, 54 PE2, 55 PE1/IRQ, 56 PE0/XIRQ, 57 PA0, 58 PA1, 59 PA2, 60 PA3, 61 PA4, 62 PA5, 63 PA6, 64 PA7, 65 VDD, 66 VSS2, 67 AN00, 68 AN08, 69 AN01, 70 AN09, 71 AN02, 72 AN10, 73 AN03, 74 AN11, 75 AN04, 76 AN12, 77 AN05, 78 AN13, 79 AN06, 80 AN14, 81 AN07, 82 AN15, 83 VDDA1, 84 VRH, 85 VRL, 86 VSSA1, 87 PM7, 88 PM6, 89 PS0, 90 PS1, 91 PS2, 92 PS3, 93 PS4, 94 PS5, 95 PS6, 96 PS7, 97 TEST, 98 PJ7, 99 PJ6, 100 PM5, 101 PM4, 102 PM3/TXCAN1, 103 PM2/RXCAN1, 104 PM1/TXCAN0, 105 PM0/RXCAN0, 106 VSSX1, 107 VDDX1, 108 PK7, 109 PP7, 110 PP6, 111 PP5, 112 PP4

## MC33789
designator U?
飞思卡尔传感器
footprint LQFP-64_EP (LQFP64)
pins: 1 ASST, 2 ~{CS_A}, 3 ~{CS_B}, 4 ~{CS_C}, 5 SCRAP, 6 PSI5_1, 7 PSI5_2, 8 PSI5_3, 9 PSI5_4, 10 GND_PSI, 11 SO, 12 SI, 13 SCK, 14 CLK, 15 ~{CS}, 16 SYNC, 17 OUT2_D, 18 OUT2_S, 19 PPT, 20 OUT1_S, 21 OUT1_D, 22 LIN_ISO, 23 GND_LIN, 24 IN9, 25 IN8, 26 IN7, 27 IN6, 28 IN5, 29 IN4, 30 IN3, 31 IN2, 32 IN1, 33 A_SENSOR, 34 TXD, 35 RXD, 36 AOUT, 37 ~{RST}, 38 ARM, 39 ~{DISARM}, 40 VCCDRI, 41 GNDA, 42 VCC, 43 VSS, 44 VDD, 45 BSTCOMP2, 46 BSTCOMP1, 47 BUCKCOMP2, 48 BUCKCOMP1, 49 VERDIAG, 50 BUCK_GND, 51 BUCK_SW, 52 VBST, 53 ERSW, 54 BST_GND, 55 BST_SW, 56 VER, 57 WAKE, 58 VPWR, 59 VSYNC, 60 CPC2, 61 CPC1, 62 CPGND, 63 VBUCK_R, 64 VBUCK, 65

## Mic2
designator MK?
Microphone; Published: 24-Mar-1999; LatestRevisionDate: 17-Jul-2002; LatestRevisionNote: Re-released for DXP Platform.; PackageReference: PIN2; Publisher: Altium Limited
footprint PIN2 (Photosensitive Diode; 2 Leads)
pins: 1, 2

## MOSFET-N
designator Q?
N-Channel MOSFET; PackageDocument: 1995/1996; Published: 8-Jun-2000; LatestRevisionDate: 17-Jul-2002; LatestRevisionNote: Re-released for DXP Platform.; PackageReference: E3; Publisher: Altium Limited
footprint TO-220AB (TO, Thru-Hole, Vertical, Heatsink Mounted; 3 In-Line Leads; Pitch 2.54 mm)
pins: D, G, S